# Altium schematic symbol library conn_wire2board.SchLib: 264 symbols (part 1 of 2)
Pins are listed as number, name and electrical type; pins without a type are passive.

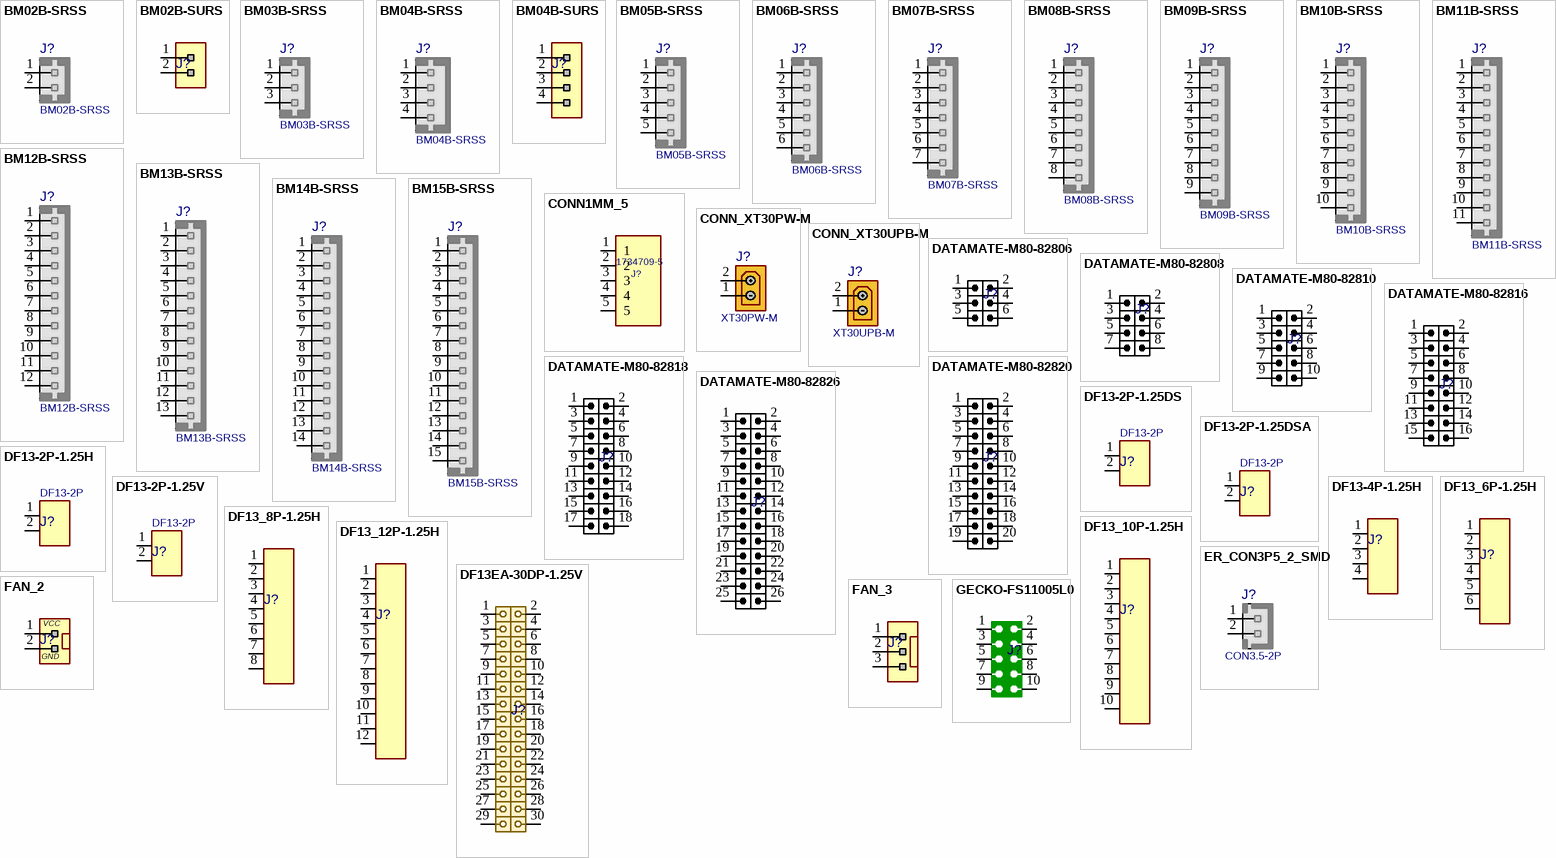
[diagram p0: symbols BM02B-SRSS to GECKO-FS11005L0]

## BM02B-SRSS
designator J?
JST SH Series, pitch: 1.0mm, 1.0A/50v. Top Entry; MANF_P#: BM02B-SRSS-TB; PARAM2: 50v; PARAM: 1.0A; MANF: JST; VALUE: BM02B-SRSS
footprint BM02B_SRSS (SH, Pitch: 1mm, Top Entry, BMxxB-SRSS-TB)
pins: 1, 2

## BM02B-SURS
designator J?, comment BM02B  (value not drawn)
Header, eSUR, Pitch: 0.8mm; MANF: JST; MANF_P#: BM02B-SURS-TF; PARAM2: 30VDC; PARAM: 0.5A; VALUE: BM02B; PRICE: 0.7$
footprint BM02B_SURS (eSUR, Pitch: 0.8mm, Top Entry)
pins: 1, 2

## BM03B-SRSS
designator J?
JST SH Series, pitch: 1.0mm, 1.0A/50v. Top Entry; MANF_P#: BM03B-SRSS-TB; PARAM2: 50v; PARAM: 1.0A; MANF: JST; VALUE: BM03B-SRSS
footprint BM03B_SRSS (SH, Pitch: 1mm, Top Entry, BMxxB-SRSS-TB)
pins: 1, 2, 3

## BM04B-SRSS
designator J?
JST SH Series, pitch: 1.0mm, 1.0A/50v. Top Entry; MANF_P#: BM04B-SRSS-TB; PARAM2: 50v; PARAM: 1.0A; MANF: JST; VALUE: BM04B-SRSS
footprint BM04B_SRSS (SH, Pitch: 1mm, Top Entry, BMxxB-SRSS-TB)
pins: 1, 2, 3, 4

## BM04B-SURS
designator J?, comment BM04B  (value not drawn)
Header, eSUR, Pitch: 0.8mm; MANF: JST; MANF_P#: BM04B-SURS-TF; PARAM2: 30VDC; PARAM: 0.5A; VALUE: BM04B; PRICE: 0.5$
footprint BM04B_SURS (eSUR, Pitch: 0.8mm, Top Entry)
pins: 1, 2, 3, 4

## BM05B-SRSS
designator J?
JST SH Series, pitch: 1.0mm, 1.0A/50v. Top Entry; MANF_P#: BM05B-SRSS-TB; PARAM2: 50v; PARAM: 1.0A; MANF: JST; VALUE: BM05B-SRSS
footprint BM05B_SRSS (SH, Pitch: 1mm, Top Entry, BMxxB-SRSS-TB)
pins: 1, 2, 3, 4, 5

## BM06B-SRSS
designator J?
JST SH Series, pitch: 1.0mm, 1.0A/50v. Top Entry; MANF_P#: BM06B-SRSS-TB; PARAM2: 50v; PARAM: 1.0A; MANF: JST; VALUE: BM06B-SRSS
footprint BM06B_SRSS (SH, Pitch: 1mm, Top Entry, BMxxB-SRSS-TB)
pins: 1, 2, 3, 4, 5, 6

## BM07B-SRSS
designator J?
JST SH Series, pitch: 1.0mm, 1.0A/50v. Top Entry; MANF_P#: BM07B-SRSS-TB; PARAM2: 50v; PARAM: 1.0A; MANF: JST; VALUE: BM07B-SRSS
footprint BM07B_SRSS (SH, Pitch: 1mm, Top Entry, BMxxB-SRSS-TB)
pins: 1, 2, 3, 4, 5, 6, 7

## BM08B-SRSS
designator J?
JST SH Series, pitch: 1.0mm, 1.0A/50v. Top Entry; MANF_P#: BM08B-SRSS-TB; PARAM2: 50v; PARAM: 1.0A; MANF: JST; VALUE: BM08B-SRSS
footprint BM08B_SRSS (SH, Pitch: 1mm, Top Entry, BMxxB-SRSS-TB)
pins: 1, 2, 3, 4, 5, 6, 7, 8

## BM09B-SRSS
designator J?
JST SH Series, pitch: 1.0mm, 1.0A/50v. Top Entry; MANF_P#: BM09B-SRSS-TB; PARAM2: 50v; PARAM: 1.0A; MANF: JST; VALUE: BM09B-SRSS
footprint BM09B_SRSS (SH, Pitch: 1mm, Top Entry, BMxxB-SRSS-TB)
pins: 1, 2, 3, 4, 5, 6, 7, 8, 9

## BM10B-SRSS
designator J?
JST SH Series, pitch: 1.0mm, 1.0A/50v. Top Entry; MANF_P#: BM10B-SRSS-TB; PARAM2: 50v; PARAM: 1.0A; MANF: JST; VALUE: BM10B-SRSS
footprint BM10B_SRSS (SH, Pitch: 1mm, Top Entry, BMxxB-SRSS-TB)
pins: 1, 2, 3, 4, 5, 6, 7, 8, 9, 10

## BM11B-SRSS
designator J?
JST SH Series, pitch: 1.0mm, 1.0A/50v. Top Entry; MANF_P#: BM11B-SRSS-TB; PARAM2: 50v; PARAM: 1.0A; MANF: JST; VALUE: BM11B-SRSS
footprint BM11B_SRSS (SH, Pitch: 1mm, Top Entry, BMxxB-SRSS-TB)
pins: 1, 2, 3, 4, 5, 6, 7, 8, 9, 10, 11

## BM12B-SRSS
designator J?
JST SH Series, pitch: 1.0mm, 1.0A/50v. Top Entry; MANF_P#: BM12B-SRSS-TB; PARAM2: 50v; PARAM: 1.0A; MANF: JST; VALUE: BM12B-SRSS
footprint BM12B_SRSS (SH, Pitch: 1mm, Top Entry, BMxxB-SRSS-TB)
pins: 1, 2, 3, 4, 5, 6, 7, 8, 9, 10, 11, 12

## BM13B-SRSS
designator J?
JST SH Series, pitch: 1.0mm, 1.0A/50v. Top Entry; MANF_P#: BM13B-SRSS-TB; PARAM2: 50v; PARAM: 1.0A; MANF: JST; VALUE: BM13B-SRSS
footprint BM13B_SRSS (SH, Pitch: 1mm, Top Entry, BMxxB-SRSS-TB)
pins: 1, 2, 3, 4, 5, 6, 7, 8, 9, 10, 11, 12, 13

## BM14B-SRSS
designator J?
JST SH Series, pitch: 1.0mm, 1.0A/50v. Top Entry; MANF_P#: BM14B-SRSS-TB; PARAM2: 50v; PARAM: 1.0A; MANF: JST; VALUE: BM14B-SRSS
footprint BM14B_SRSS (SH, Pitch: 1mm, Top Entry, BMxxB-SRSS-TB)
pins: 1, 2, 3, 4, 5, 6, 7, 8, 9, 10, 11, 12, 13, 14

## BM15B-SRSS
designator J?
JST SH Series, pitch: 1.0mm, 1.0A/50v. Top Entry; MANF_P#: BM15B-SRSS-TB; PARAM2: 50v; PARAM: 1.0A; MANF: JST; VALUE: BM15B-SRSS
footprint BM15B_SRSS (SH, Pitch: 1mm, Top Entry, BMxxB-SRSS-TB)
pins: 1, 2, 3, 4, 5, 6, 7, 8, 9, 10, 11, 12, 13, 14, 15

## CONN1MM_5
designator J?, comment 1734709-5
CON 1X5 SMT RA 1MM 124H SN; MANF: Tyco Electronics; MANF_P#: 1734709-5
footprint CONN1MM_5 (CONN, 1mm, SMT RA, TE 1734709-5)
pins: 1, 2, 3, 4, 5

## CONN_XT30PW-M
designator J?, comment XT30PW-M
Conn. Battery  XT30PW, right angle; MANF_P#: XT30PW-M; VALUE: XT30PW-M
footprint BT_CONN_XT30PW_M (BATTERY CONN XT30PW-M , right angle)
pins: 1, 2

## CONN_XT30UPB-M
designator J?, comment XT30UPB-M
Conn. Battery  XT30PW, Vertical; MANF_P#: XT30UPB-M; VALUE: XT30UPB-M
footprint BT_CONN_XT30UPB_M (BATTERY CONN, XT30UPB-M, Vertical)
pins: 1, 2

## DATAMATE-M80-82806
designator J?, comment M80-82806  (value not drawn)
Connector Datamate, pitch:2mm; MANF: Harwin; MANF_P#: M80-8280642; PARAM2: 3A per pin; PARAM: -55~125°C; VALUE: M80-82806; PRICE: 4$
footprint M80_82806 (M80-82806 Harwin Datamate 2mm Male)
pins: 1, 2, 3, 4, 5, 6

## DATAMATE-M80-82808
designator J?, comment M80-82808  (value not drawn)
Connector Datamate, pitch:2mm; MANF: Harwin; MANF_P#: M80-8280842; PARAM2: 3A per pin; PARAM: -55~125°C; VALUE: M80-82808; PRICE: 4$
footprint M80_82808 (Footprint not found)
pins: 1, 2, 3, 4, 5, 6, 7, 8

## DATAMATE-M80-82810
designator J?, comment M80-82810  (value not drawn)
Connector Datamate, pitch:2mm; MANF: Harwin; MANF_P#: M80-8281042; PARAM2: 3A per pin; PARAM: -55~125°C; VALUE: M80-82810; PRICE: 4$
footprint M80_82810 (M80-8281042 Harwin Datamate 2mm Male)
pins: 1, 2, 3, 4, 5, 6, 7, 8, 9, 10

## DATAMATE-M80-82816
designator J?, comment M80-82816  (value not drawn)
Connector Datamate, pitch:2mm; MANF: Harwin; MANF_P#: M80-8281642; PARAM2: 3A per pin; PARAM: -55~125°C; VALUE: M80-82816; PRICE: 4$
footprint M80_82816 (M80-8281642 Harwin Datamate 2mm Male)
pins: 1, 2, 3, 4, 5, 6, 7, 8, 9, 10, 11, 12, 13, 14, 15, 16

## DATAMATE-M80-82818
designator J?, comment M80-82818  (value not drawn)
Connector Datamate, pitch:2mm; MANF: Harwin; MANF_P#: M80-8281842; PARAM2: 3A per pin; PARAM: -55~125°C; VALUE: M80-82818; PRICE: 4$
footprint M80_82818 (M80-8281842 Harwin Datamate 2mm Male)
pins: 1, 2, 3, 4, 5, 6, 7, 8, 9, 10, 11, 12, 13, 14, 15, 16, 17, 18

## DATAMATE-M80-82820
designator J?, comment M80-82820  (value not drawn)
Connector Datamate, pitch:2mm; MANF: Harwin; MANF_P#: M80-8282042; PARAM2: 3A per pin; PARAM: -55~125°C; VALUE: M80-82820; PRICE: 4$
footprint M80_82820 (M80-8281042 Harwin Datamate 2mm Male)
pins: 1, 2, 3, 4, 5, 6, 7, 8, 9, 10, 11, 12, 13, 14, 15, 16, 17, 18, 19, 20

## DATAMATE-M80-82826
designator J?, comment M80-82826  (value not drawn)
Connector Datamate, pitch:2mm; MANF: Harwin; MANF_P#: M80-8282642; PARAM2: 3A per pin; PARAM: -55~125°C; VALUE: M80-82826; PRICE: 4$
footprint M80_82826 (M80-8282642 Harwin Datamate 2mm Male)
pins: 1, 2, 3, 4, 5, 6, 7, 8, 9, 10, 11, 12, 13, 14, 15, 16, 17, 18, 19, 20, 21, 22, 23, 24, 25, 26

## DF13-2P-1.25DS
designator J?, comment DF13-2P
Connector, DF13, pitch:1.25mm, singleRow, RightAngle, THD; MANF: Hirose; MANF_P#: DF13-2P-1.25DS; VALUE: DF13-2P
footprint DF13_2P_DS (Hirose Connector DF13-2P-1.25DS pitch:1.25mm)
signal-integrity model Connector
pins: 1, 2

## DF13-2P-1.25DSA
designator J?, comment DF13-2P
Connector, DF13, pitch:1.25mm, singleRow, Straight, THD; MANF: Hirose; MANF_P#: DF13-2P-1.25DSA; VALUE: DF13-2P
footprint DF13_2P_DSA (Footprint not found)
signal-integrity model Connector
pins: 1, 2

## DF13-2P-1.25H
designator J?, comment DF13-2P
Connector, DF13, pitch:1.25mm, singleRow, Straight, THD; MANF: Hirose; MANF_P#: DF13-2P-1.25H; VALUE: DF13-2P
footprint DF13_2P_H (Hirose Connector DF13-2P-1.25H, pitch:1.25mm)
signal-integrity model Connector
pins: 1, 2

## DF13-2P-1.25V
designator J?, comment DF13-2P
Connector, DF13, pitch:1.25mm, singleRow, Straight, SMT; MANF: Hirose; MANF_P#: DF13-2P-1.25V; VALUE: DF13-2P
footprint DF13_2P_V (Hirose Connector DF13-2P-1.25V, pitch:1.25mm)
signal-integrity model Connector
pins: 1, 2

## DF13-4P-1.25H
designator J?, comment DF13-4  (value not drawn)
Connector, DF13, pitch:1.25mm, singleRow, Right Angle, SMT; MANF: Hirose; MANF_P#: DF13-4P-1.25H; VALUE: DF13-4
footprint DF13_4P_H (Hirose Connector DF13-4P-1.25H, DF13 4WAY pitch:1.25mm)
signal-integrity model Connector
pins: 1, 2, 3, 4

## DF13_6P-1.25H
designator J?, comment DF13-6  (value not drawn)
Connector, DF13, pitch:1.25mm, singleRow, Right Angle, SMT; MANF: Hirose; MANF_P#: DF13-6P-1.25H; VALUE: DF13-6
footprint DF13_6P_H (Hirose Connector DF13-6P-1.25H, DF13 6WAY pitch:1.25mm)
signal-integrity model Connector
pins: 1, 2, 3, 4, 5, 6

## DF13_8P-1.25H
designator J?, comment DF13-8  (value not drawn)
Connector, DF13, pitch:1.25mm, singleRow, Right Angle, SMT; MANF: Hirose; MANF_P#: DF13-8P-1.25H; VALUE: DF13-8
footprint DF13_8P_H (Hirose Connector DF13-8P-1.25H, pitch:1.25mm)
signal-integrity model Connector
pins: 1, 2, 3, 4, 5, 6, 7, 8

## DF13_10P-1.25H
designator J?, comment DF13-10P  (value not drawn)
Connector, DF13, pitch:1.25mm, singleRow, Right Angle, SMT; MANF: Hirose; MANF_P#: DF13-10P-1.25H; VALUE: DF13-10P
footprint DF13_10P_H (Hirose Connector DF13-12P-1.25H, pitch:1.25mm)
signal-integrity model Connector
pins: 1, 2, 3, 4, 5, 6, 7, 8, 9, 10

## DF13_12P-1.25H
designator J?, comment DF13-12P  (value not drawn)
Connector, DF13, pitch:1.25mm, singleRow, Right Angle, SMT; MANF: Hirose; MANF_P#: DF13-12P-1.25H; VALUE: DF13-12P
footprint DF13_12P_H (Hirose Connector DF13-12P-1.25H, pitch:1.25mm)
signal-integrity model Connector
pins: 1, 2, 3, 4, 5, 6, 7, 8, 9, 10, 11, 12

## DF13EA-30DP-1.25V
designator J?  (value not drawn)
Connector GECKO, pitch:1.25mm; MANF: Hirose; PARAM2: 1A per pin; PARAM: -35~85°C; MANF_P#: DF13EA-30DP-1.25V; VALUE: DF13EA-30DP-1.25V; PRICE: 24$
footprint DF13EA-30DP (DF13EA-30DP-1.25V Hirose 1.25mm)
pins: 1, 2, 3, 4, 5, 6, 7, 8, 9, 10, 11, 12, 13, 14, 15, 16, 17, 18, 19, 20, 21, 22, 23, 24, 25, 26, 27, 28, 29, 30

## ER_CON3P5_2_SMD
designator J?, comment CON3.5-2P
CONN, lcd backligh, 3.5mm pitch; MANF_P#: ER-CON3.5-2P-SMD; VALUE: CON3.5-2P
footprint ER_CON3P5_2_SMD (ER-CON3.5-2P-SMD)
signal-integrity model Connector
pins: 1, 2

## FAN_2
designator J?  (value not drawn)
Header, WF, Pitch: 2.54mm; VALUE: FAN_2
footprint WF_2 (DS1070  WF, Cvilux CI31 pitch 2.54mm)
signal-integrity model Connector
pins: 1, 2
text: VCC; GND

## FAN_3
designator J?  (value not drawn)
Header, WF, Pitch: 2.54mm; VALUE: FAN_3
footprint WF_3 (DS1070  WF, Cvilux CI31 pitch 2.54mm)
signal-integrity model Connector
pins: 1, 2, 3

## GECKO-FS11005L0
designator J?, comment G125-FS11005L0  (value not drawn)
Connector GECKO, pitch:1.25mm; MANF: Harwin; MANF_P#: G125-FS11005L0R; PARAM2: 2A per pin; PARAM: -65~150°C; VALUE: G125-FS11005L0; PRICE: 24$
footprint G125_FS11005L0 (G125-FS11005L0 Harwin Gecko 1.25mm Female)
pins: 1, 2, 3, 4, 5, 6, 7, 8, 9, 10

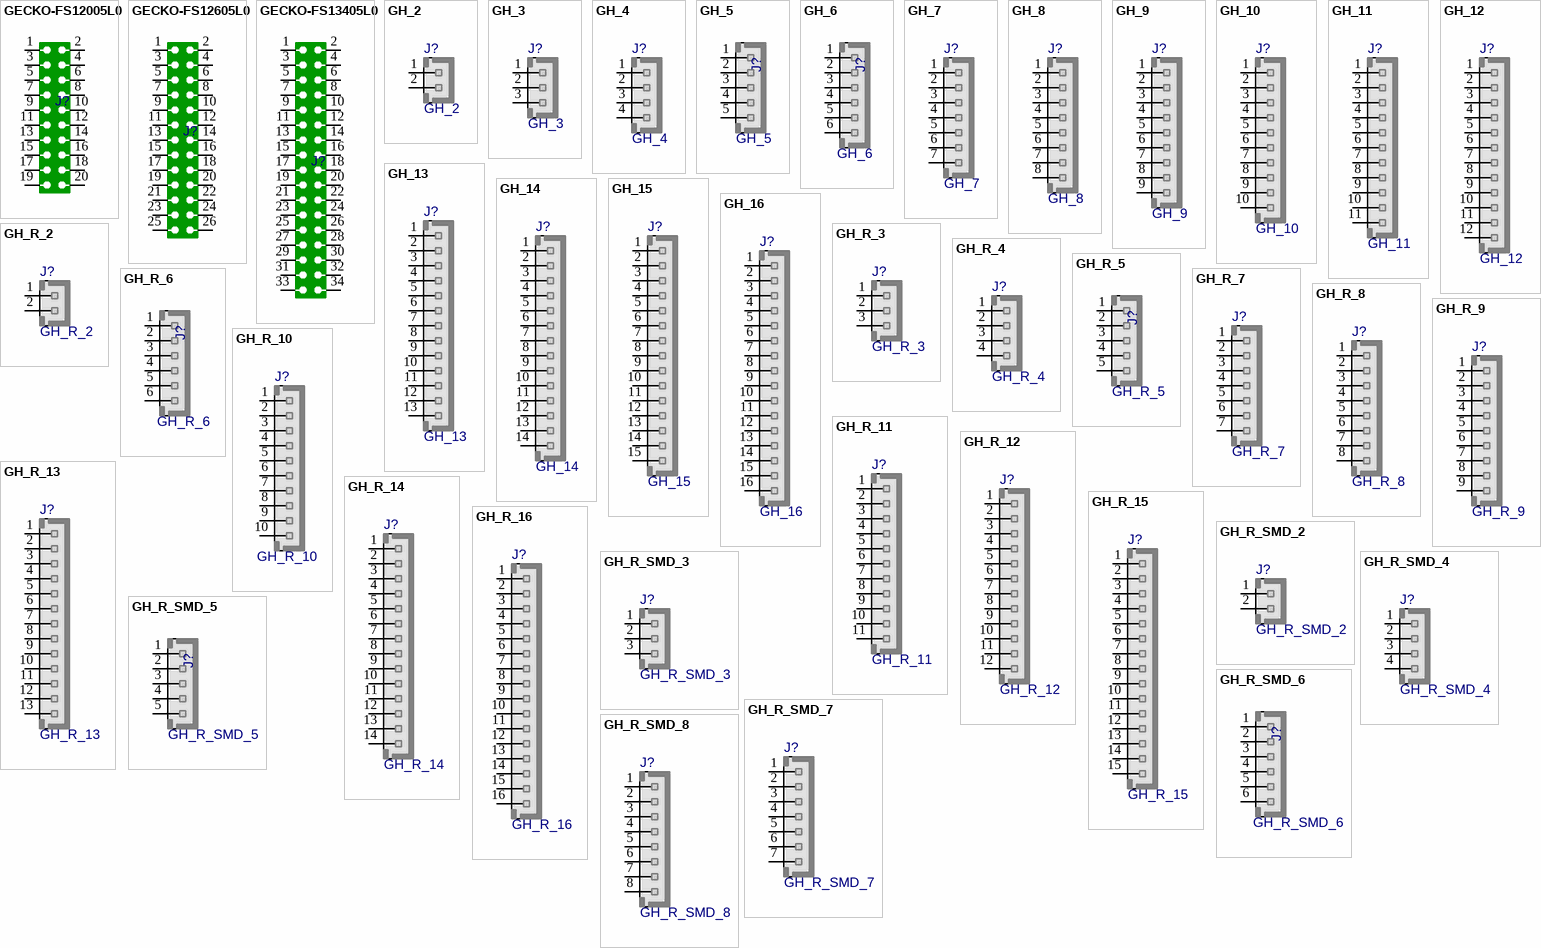
[diagram p1: symbols GECKO-FS12005L0 to GH_R_SMD_8]

## GECKO-FS12005L0
designator J?, comment G125-FS12005L0  (value not drawn)
Connector GECKO, pitch:1.25mm; MANF: Harwin; MANF_P#: G125-FS12005L0R; PARAM2: 2A per pin; PARAM: -65~150°C; VALUE: G125-FS12005L0; PRICE: 24$
footprint G125_FS12005L0 (G125-FS12005L0 Harwin Gecko 1.25mm Female)
pins: 1, 2, 3, 4, 5, 6, 7, 8, 9, 10, 11, 12, 13, 14, 15, 16, 17, 18, 19, 20

## GECKO-FS12605L0
designator J?, comment G125-FS12605L0  (value not drawn)
Connector GECKO, pitch:1.25mm; MANF: Harwin; MANF_P#: G125-FS12605L0R; PARAM2: 2A per pin; PARAM: -65~150°C; VALUE: G125-FS12605L0; PRICE: 24$
footprint G125_FS12605L0 (G125-FS12605L0 Harwin Gecko 1.25mm Female)
pins: 1, 2, 3, 4, 5, 6, 7, 8, 9, 10, 11, 12, 13, 14, 15, 16, 17, 18, 19, 20, 21, 22, 23, 24, 25, 26

## GECKO-FS13405L0
designator J?, comment G125-FS13405L0  (value not drawn)
Connector GECKO, pitch:1.25mm; MANF: Harwin; MANF_P#: G125-FS13405L0R; PARAM2: 2A per pin; PARAM: -65~150°C; VALUE: G125-FS13405L0; PRICE: 24$
footprint G125_FS13405L0 (G125-FS13405L0 Harwin Gecko 1.25mm Female)
pins: 1, 2, 3, 4, 5, 6, 7, 8, 9, 10, 11, 12, 13, 14, 15, 16, 17, 18, 19, 20, 21, 22, 23, 24, 25, 26, 27, 28, 29, 30, 31, 32, 33, 34

## GH_2
designator J?
JST GH Series, pitch: 1.25mm, 1.0A/50v; PARAM2: 50v; PARAM: 1.0A; MANF: JST; VALUE: GH_2
footprint GH_2 (JST GH Series, pitch: 1.25mm, 1.0A/50v)
pins: 1, 2

## GH_3
designator J?
JST GH Series, pitch: 1.25mm, 1.0A/50v; PARAM2: 50v; PARAM: 1.0A; MANF: JST; VALUE: GH_3
footprint GH_3 (JST GH Series, pitch: 1.25mm, 1.0A/50v)
pins: 1, 2, 3

## GH_4
designator J?
JST GH Series, pitch: 1.25mm, 1.0A/50v; PARAM2: 50v; PARAM: 1.0A; MANF: JST; VALUE: GH_4
footprint GH_4 (JST GH Series, pitch: 1.25mm, 1.0A/50v)
pins: 1, 2, 3, 4

## GH_5
designator J?
JST GH Series, pitch: 1.25mm, 1.0A/50v; PARAM2: 50v; PARAM: 1.0A; MANF: JST; VALUE: GH_5
footprint GH_5 (JST GH Series, pitch: 1.25mm, 1.0A/50v)
pins: 1, 2, 3, 4, 5

## GH_6
designator J?
JST GH Series, pitch: 1.25mm, 1.0A/50v; PARAM2: 50v; PARAM: 1.0A; MANF: JST; VALUE: GH_6
footprint GH_6 (JST GH Series, pitch: 1.25mm, 1.0A/50v)
pins: 1, 2, 3, 4, 5, 6

## GH_7
designator J?
JST GH Series, pitch: 1.25mm, 1.0A/50v; PARAM2: 50v; PARAM: 1.0A; MANF: JST; VALUE: GH_7
footprint GH_7 (JST GH Series, pitch: 1.25mm, 1.0A/50v)
pins: 1, 2, 3, 4, 5, 6, 7

## GH_8
designator J?
JST GH Series, pitch: 1.25mm, 1.0A/50v; PARAM2: 50v; PARAM: 1.0A; MANF: JST; VALUE: GH_8
footprint GH_8 (JST GH Series, pitch: 1.25mm, 1.0A/50v)
pins: 1, 2, 3, 4, 5, 6, 7, 8

## GH_9
designator J?
JST GH Series, pitch: 1.25mm, 1.0A/50v; PARAM2: 50v; PARAM: 1.0A; MANF: JST; VALUE: GH_9
footprint GH_9 (JST GH Series, pitch: 1.25mm, 1.0A/50v)
pins: 1, 2, 3, 4, 5, 6, 7, 8, 9

## GH_10
designator J?
JST GH Series, pitch: 1.25mm, 1.0A/50v; PARAM2: 50v; PARAM: 1.0A; MANF: JST; VALUE: GH_10
footprint GH_10 (JST GH Series, pitch: 1.25mm, 1.0A/50v)
pins: 1, 2, 3, 4, 5, 6, 7, 8, 9, 10

## GH_11
designator J?
JST GH Series, pitch: 1.25mm, 1.0A/50v; PARAM2: 50v; PARAM: 1.0A; MANF: JST; VALUE: GH_11
footprint GH_11 (JST GH Series, pitch: 1.25mm, 1.0A/50v)
pins: 1, 2, 3, 4, 5, 6, 7, 8, 9, 10, 11

## GH_12
designator J?
JST GH Series, pitch: 1.25mm, 1.0A/50v; PARAM2: 50v; PARAM: 1.0A; MANF: JST; VALUE: GH_12
footprint GH_12 (JST GH Series, pitch: 1.25mm, 1.0A/50v)
pins: 1, 2, 3, 4, 5, 6, 7, 8, 9, 10, 11, 12

## GH_13
designator J?
JST GH Series, pitch: 1.25mm, 1.0A/50v; PARAM2: 50v; PARAM: 1.0A; MANF: JST; VALUE: GH_13
footprint GH_13 (JST GH Series, pitch: 1.25mm, 1.0A/50v)
pins: 1, 2, 3, 4, 5, 6, 7, 8, 9, 10, 11, 12, 13

## GH_14
designator J?
JST GH Series, pitch: 1.25mm, 1.0A/50v; PARAM2: 50v; PARAM: 1.0A; MANF: JST; VALUE: GH_14
footprint GH_14 (JST GH Series, pitch: 1.25mm, 1.0A/50v)
pins: 1, 2, 3, 4, 5, 6, 7, 8, 9, 10, 11, 12, 13, 14

## GH_15
designator J?
JST GH Series, pitch: 1.25mm, 1.0A/50v; PARAM2: 50v; PARAM: 1.0A; MANF: JST; VALUE: GH_15
footprint GH_15 (JST GH Series, pitch: 1.25mm, 1.0A/50v)
pins: 1, 2, 3, 4, 5, 6, 7, 8, 9, 10, 11, 12, 13, 14, 15

## GH_16
designator J?
JST GH Series, pitch: 1.25mm, 1.0A/50v; PARAM2: 50v; PARAM: 1.0A; MANF: JST; VALUE: GH_16
footprint GH_16 (JST GH Series, pitch: 1.25mm, 1.0A/50v)
pins: 1, 2, 3, 4, 5, 6, 7, 8, 9, 10, 11, 12, 13, 14, 15, 16

## GH_R_2
designator J?
JST GH Series, pitch: 1.25mm, 1.0A/50v; PARAM2: 50v; PARAM: 1.0A; MANF: JST; VALUE: GH_R_2
footprint GH_R_2 (JST GH Series, pitch: 1.25mm, 1.0A/50v, Right Angle)
pins: 1, 2

## GH_R_3
designator J?
JST GH Series, pitch: 1.25mm, 1.0A/50v; PARAM2: 50v; PARAM: 1.0A; MANF: JST; VALUE: GH_R_3
footprint GH_R_3 (JST GH Series, pitch: 1.25mm, 1.0A/50v, Right Angle)
pins: 1, 2, 3

## GH_R_4
designator J?
JST GH Series, pitch: 1.25mm, 1.0A/50v; PARAM2: 50v; PARAM: 1.0A; MANF: JST; VALUE: GH_R_4
footprint GH_R_4 (JST GH Series, pitch: 1.25mm, 1.0A/50v, Right Angle)
pins: 1, 2, 3, 4

## GH_R_5
designator J?
JST GH Series, pitch: 1.25mm, 1.0A/50v; PARAM2: 50v; PARAM: 1.0A; MANF: JST; VALUE: GH_R_5
footprint GH_R_5 (JST GH Series, pitch: 1.25mm, 1.0A/50v, Right Angle)
pins: 1, 2, 3, 4, 5

## GH_R_6
designator J?
JST GH Series, pitch: 1.25mm, 1.0A/50v; PARAM2: 50v; PARAM: 1.0A; MANF: JST; VALUE: GH_R_6
footprint GH_R_6 (JST GH Series, pitch: 1.25mm, 1.0A/50v, Right Angle)
pins: 1, 2, 3, 4, 5, 6

## GH_R_7
designator J?
JST GH Series, pitch: 1.25mm, 1.0A/50v; PARAM2: 50v; PARAM: 1.0A; MANF: JST; VALUE: GH_R_7
footprint GH_R_7 (JST GH Series, pitch: 1.25mm, 1.0A/50v, Right Angle)
pins: 1, 2, 3, 4, 5, 6, 7

## GH_R_8
designator J?
JST GH Series, pitch: 1.25mm, 1.0A/50v; PARAM2: 50v; PARAM: 1.0A; MANF: JST; VALUE: GH_R_8
footprint GH_R_8 (JST GH Series, pitch: 1.25mm, 1.0A/50v, Right Angle)
pins: 1, 2, 3, 4, 5, 6, 7, 8

## GH_R_9
designator J?
JST GH Series, pitch: 1.25mm, 1.0A/50v; PARAM2: 50v; PARAM: 1.0A; MANF: JST; VALUE: GH_R_9
footprint GH_R_9 (JST GH Series, pitch: 1.25mm, 1.0A/50v, Right Angle)
pins: 1, 2, 3, 4, 5, 6, 7, 8, 9

## GH_R_10
designator J?
JST GH Series, pitch: 1.25mm, 1.0A/50v; PARAM2: 50v; PARAM: 1.0A; MANF: JST; VALUE: GH_R_10
footprint GH_R_10 (JST GH Series, pitch: 1.25mm, 1.0A/50v, Right Angle)
pins: 1, 2, 3, 4, 5, 6, 7, 8, 9, 10

## GH_R_11
designator J?
JST GH Series, pitch: 1.25mm, 1.0A/50v; PARAM2: 50v; PARAM: 1.0A; MANF: JST; VALUE: GH_R_11
footprint GH_R_11 (JST GH Series, pitch: 1.25mm, 1.0A/50v, Right Angle)
pins: 1, 2, 3, 4, 5, 6, 7, 8, 9, 10, 11

## GH_R_12
designator J?
JST GH Series, pitch: 1.25mm, 1.0A/50v; PARAM2: 50v; PARAM: 1.0A; MANF: JST; VALUE: GH_R_12
footprint GH_R_12 (JST GH Series, pitch: 1.25mm, 1.0A/50v, Right Angle)
pins: 1, 2, 3, 4, 5, 6, 7, 8, 9, 10, 11, 12

## GH_R_13
designator J?
JST GH Series, pitch: 1.25mm, 1.0A/50v; PARAM2: 50v; PARAM: 1.0A; MANF: JST; VALUE: GH_R_13
footprint GH_R_13 (JST GH Series, pitch: 1.25mm, 1.0A/50v, Right Angle)
pins: 1, 2, 3, 4, 5, 6, 7, 8, 9, 10, 11, 12, 13

## GH_R_14
designator J?
JST GH Series, pitch: 1.25mm, 1.0A/50v; PARAM2: 50v; PARAM: 1.0A; MANF: JST; VALUE: GH_R_14
footprint GH_R_14 (JST GH Series, pitch: 1.25mm, 1.0A/50v, Right Angle)
pins: 1, 2, 3, 4, 5, 6, 7, 8, 9, 10, 11, 12, 13, 14

## GH_R_15
designator J?
JST GH Series, pitch: 1.25mm, 1.0A/50v; PARAM2: 50v; PARAM: 1.0A; MANF: JST; VALUE: GH_R_15
footprint GH_R_15 (JST GH Series, pitch: 1.25mm, 1.0A/50v, Right Angle)
pins: 1, 2, 3, 4, 5, 6, 7, 8, 9, 10, 11, 12, 13, 14, 15

## GH_R_16
designator J?
JST GH Series, pitch: 1.25mm, 1.0A/50v; PARAM2: 50v; PARAM: 1.0A; MANF: JST; VALUE: GH_R_16
footprint GH_R_16 (JST GH Series, pitch: 1.25mm, 1.0A/50v, Right Angle)
pins: 1, 2, 3, 4, 5, 6, 7, 8, 9, 10, 11, 12, 13, 14, 15, 16

## GH_R_SMD_2
designator J?
JST GH Series, pitch: 1.25mm, 1.0A/50v; MANF_P#: SM02B-GHS-TB; PARAM2: 50v; PARAM: 1.0A; MANF: JST; VALUE: GH_R_SMD_2
footprint GH_R_SMD_2 (JST GH Series, pitch: 1.25mm, 1.0A/50v, Right Angle, SMD)
pins: 1, 2

## GH_R_SMD_3
designator J?
JST GH Series, pitch: 1.25mm, 1.0A/50v; MANF_P#: SM03B-GHS-TB; PARAM2: 50v; PARAM: 1.0A; MANF: JST; VALUE: GH_R_SMD_3
footprint GH_R_SMD_3 (JST GH Series, pitch: 1.25mm, 1.0A/50v, Right Angle, SMD)
pins: 1, 2, 3

## GH_R_SMD_4
designator J?
JST GH Series, pitch: 1.25mm, 1.0A/50v; MANF_P#: SM04B-GHS-TB; PARAM2: 50v; PARAM: 1.0A; MANF: JST; VALUE: GH_R_SMD_4
footprint GH_R_SMD_4 (JST GH Series, pitch: 1.25mm, 1.0A/50v, Right Angle, SMD)
pins: 1, 2, 3, 4

## GH_R_SMD_5
designator J?
JST GH Series, pitch: 1.25mm, 1.0A/50v; MANF_P#: SM05B-GHS-TB; PARAM2: 50v; PARAM: 1.0A; MANF: JST; VALUE: GH_R_SMD_5
footprint GH_R_SMD_5 (JST GH Series, pitch: 1.25mm, 1.0A/50v, Right Angle, SMD)
pins: 1, 2, 3, 4, 5

## GH_R_SMD_6
designator J?
JST GH Series, pitch: 1.25mm, 1.0A/50v; MANF_P#: SM06B-GHS-TB; PARAM2: 50v; PARAM: 1.0A; MANF: JST; VALUE: GH_R_SMD_6
footprint GH_R_SMD_6 (JST GH Series, pitch: 1.25mm, 1.0A/50v, Right Angle, SMD)
pins: 1, 2, 3, 4, 5, 6

## GH_R_SMD_7
designator J?
JST GH Series, pitch: 1.25mm, 1.0A/50v; MANF_P#: SM07B-GHS-TB; PARAM2: 50v; PARAM: 1.0A; MANF: JST; VALUE: GH_R_SMD_7
footprint GH_R_SMD_7 (JST GH Series, pitch: 1.25mm, 1.0A/50v, Right Angle, SMD)
pins: 1, 2, 3, 4, 5, 6, 7

## GH_R_SMD_8
designator J?
JST GH Series, pitch: 1.25mm, 1.0A/50v; MANF_P#: SM08B-GHS-TB; PARAM2: 50v; PARAM: 1.0A; MANF: JST; VALUE: GH_R_SMD_8
footprint GH_R_SMD_8 (JST GH Series, pitch: 1.25mm, 1.0A/50v, Right Angle, SMD)
pins: 1, 2, 3, 4, 5, 6, 7, 8

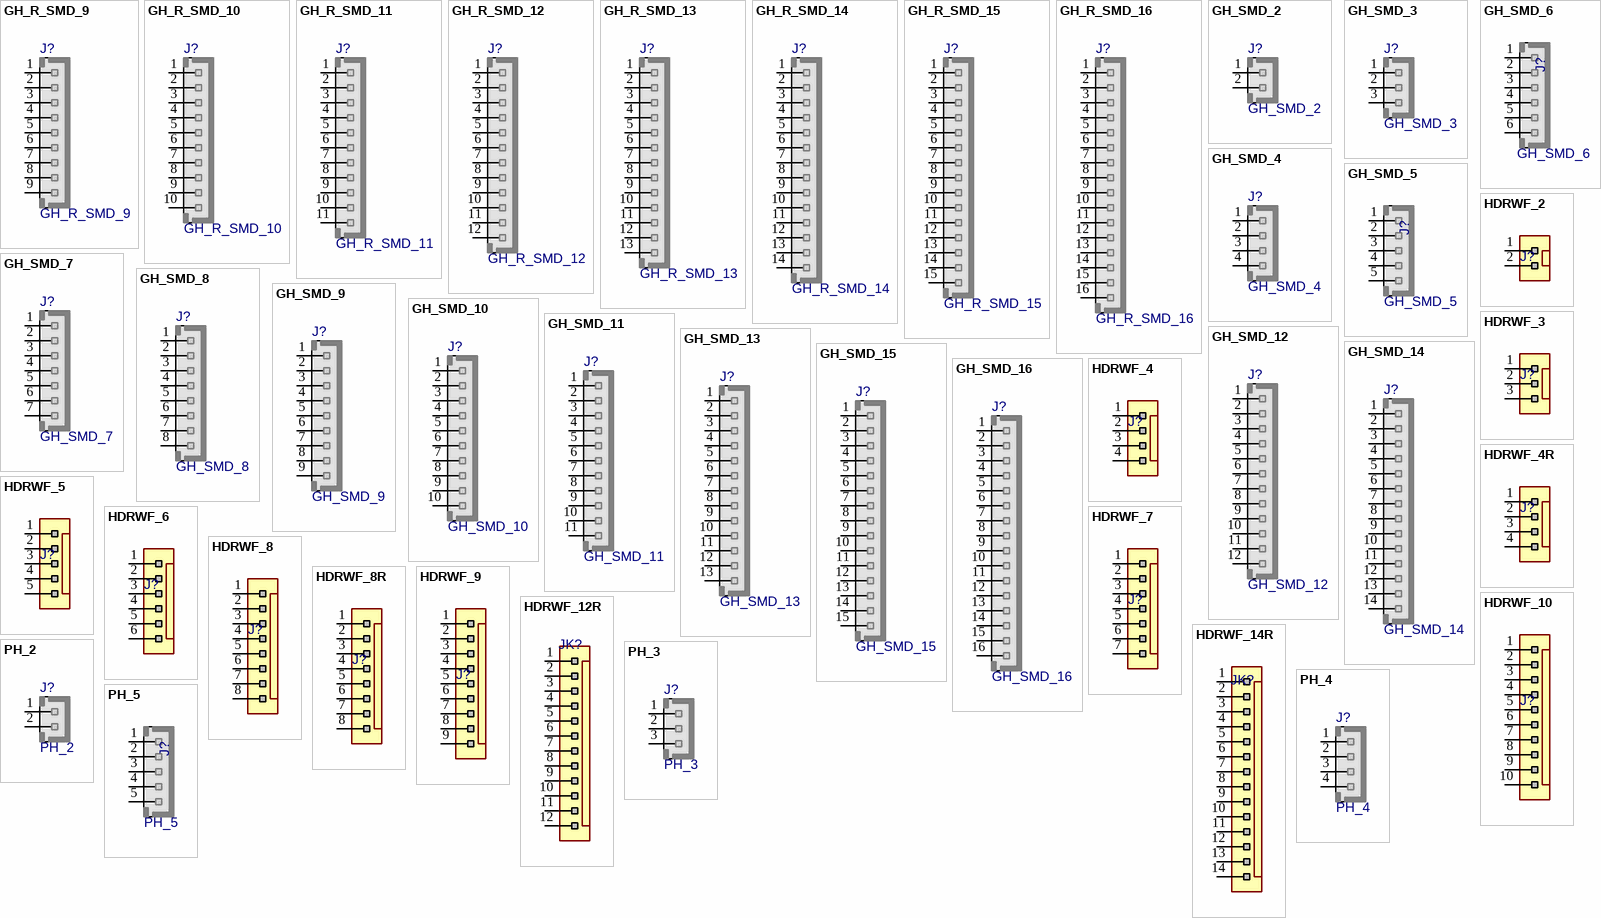
[diagram p2: symbols GH_R_SMD_9 to PH_5]

## GH_R_SMD_9
designator J?
JST GH Series, pitch: 1.25mm, 1.0A/50v; MANF_P#: SM09B-GHS-TB; PARAM2: 50v; PARAM: 1.0A; MANF: JST; VALUE: GH_R_SMD_9
footprint GH_R_SMD_9 (JST GH Series, pitch: 1.25mm, 1.0A/50v, Right Angle, SMD)
pins: 1, 2, 3, 4, 5, 6, 7, 8, 9

## GH_R_SMD_10
designator J?
JST GH Series, pitch: 1.25mm, 1.0A/50v; MANF_P#: SM10B-GHS-TB; PARAM2: 50v; PARAM: 1.0A; MANF: JST; VALUE: GH_R_SMD_10
footprint GH_R_SMD_10 (JST GH Series, pitch: 1.25mm, 1.0A/50v, Right Angle, SMD)
pins: 1, 2, 3, 4, 5, 6, 7, 8, 9, 10

## GH_R_SMD_11
designator J?
JST GH Series, pitch: 1.25mm, 1.0A/50v; MANF_P#: SM11B-GHS-TB; PARAM2: 50v; PARAM: 1.0A; MANF: JST; VALUE: GH_R_SMD_11
footprint GH_R_SMD_11 (JST GH Series, pitch: 1.25mm, 1.0A/50v, Right Angle, SMD)
pins: 1, 2, 3, 4, 5, 6, 7, 8, 9, 10, 11

## GH_R_SMD_12
designator J?
JST GH Series, pitch: 1.25mm, 1.0A/50v; MANF_P#: SM12B-GHS-TB; PARAM2: 50v; PARAM: 1.0A; MANF: JST; VALUE: GH_R_SMD_12
footprint GH_R_SMD_12 (JST GH Series, pitch: 1.25mm, 1.0A/50v, Right Angle, SMD)
pins: 1, 2, 3, 4, 5, 6, 7, 8, 9, 10, 11, 12

## GH_R_SMD_13
designator J?
JST GH Series, pitch: 1.25mm, 1.0A/50v; MANF_P#: SM13B-GHS-TB; PARAM2: 50v; PARAM: 1.0A; MANF: JST; VALUE: GH_R_SMD_13
footprint GH_R_SMD_13 (JST GH Series, pitch: 1.25mm, 1.0A/50v, Right Angle, SMD)
pins: 1, 2, 3, 4, 5, 6, 7, 8, 9, 10, 11, 12, 13

## GH_R_SMD_14
designator J?
JST GH Series, pitch: 1.25mm, 1.0A/50v; MANF_P#: SM14B-GHS-TB; PARAM2: 50v; PARAM: 1.0A; MANF: JST; VALUE: GH_R_SMD_14
footprint GH_R_SMD_14 (JST GH Series, pitch: 1.25mm, 1.0A/50v, Right Angle, SMD)
pins: 1, 2, 3, 4, 5, 6, 7, 8, 9, 10, 11, 12, 13, 14

## GH_R_SMD_15
designator J?
JST GH Series, pitch: 1.25mm, 1.0A/50v; MANF_P#: SM15B-GHS-TB; PARAM2: 50v; PARAM: 1.0A; MANF: JST; VALUE: GH_R_SMD_15
footprint GH_R_SMD_15 (JST GH Series, pitch: 1.25mm, 1.0A/50v, Right Angle, SMD)
pins: 1, 2, 3, 4, 5, 6, 7, 8, 9, 10, 11, 12, 13, 14, 15

## GH_R_SMD_16
designator J?
JST GH Series, pitch: 1.25mm, 1.0A/50v; MANF_P#: SM16B-GHS-TB; PARAM2: 50v; PARAM: 1.0A; MANF: JST; VALUE: GH_R_SMD_16
footprint GH_R_SMD_16 (JST GH Series, pitch: 1.25mm, 1.0A/50v, Right Angle, SMD)
pins: 1, 2, 3, 4, 5, 6, 7, 8, 9, 10, 11, 12, 13, 14, 15, 16

## GH_SMD_2
designator J?
JST GH Series, pitch: 1.25mm, 1.0A/50v; MANF_P#: BM02B-GHS-TB; PARAM2: 50v; PARAM: 1.0A; MANF: JST; VALUE: GH_SMD_2
footprint GH_SMD_2 (JST GH Series, pitch: 1.25mm, 1.0A/50v, SMD)
pins: 1, 2

## GH_SMD_3
designator J?
JST GH Series, pitch: 1.25mm, 1.0A/50v; MANF_P#: BM03B-GHS-TB; PARAM2: 50v; PARAM: 1.0A; MANF: JST; VALUE: GH_SMD_3
footprint GH_SMD_3 (JST GH Series, pitch: 1.25mm, 1.0A/50v, SMD)
pins: 1, 2, 3

## GH_SMD_4
designator J?
JST GH Series, pitch: 1.25mm, 1.0A/50v; MANF_P#: BM04B-GHS-TB; PARAM2: 50v; PARAM: 1.0A; MANF: JST; VALUE: GH_SMD_4
footprint GH_SMD_4 (JST GH Series, pitch: 1.25mm, 1.0A/50v, SMD)
pins: 1, 2, 3, 4

## GH_SMD_5
designator J?
JST GH Series, pitch: 1.25mm, 1.0A/50v; MANF_P#: BM05B-GHS-TB; PARAM2: 50v; PARAM: 1.0A; MANF: JST; VALUE: GH_SMD_5
footprint GH_SMD_5 (JST GH Series, pitch: 1.25mm, 1.0A/50v, SMD)
pins: 1, 2, 3, 4, 5

## GH_SMD_6
designator J?
JST GH Series, pitch: 1.25mm, 1.0A/50v; MANF_P#: BM06B-GHS-TB; PARAM2: 50v; PARAM: 1.0A; MANF: JST; VALUE: GH_SMD_6
footprint GH_SMD_6 (JST GH Series, pitch: 1.25mm, 1.0A/50v, SMD)
pins: 1, 2, 3, 4, 5, 6

## GH_SMD_7
designator J?
JST GH Series, pitch: 1.25mm, 1.0A/50v; MANF_P#: BM07B-GHS-TB; PARAM2: 50v; PARAM: 1.0A; MANF: JST; VALUE: GH_SMD_7
footprint GH_SMD_7 (JST GH Series, pitch: 1.25mm, 1.0A/50v, SMD)
pins: 1, 2, 3, 4, 5, 6, 7

## GH_SMD_8
designator J?
JST GH Series, pitch: 1.25mm, 1.0A/50v; MANF_P#: BM08B-GHS-TB; PARAM2: 50v; PARAM: 1.0A; MANF: JST; VALUE: GH_SMD_8
footprint GH_SMD_8 (JST GH Series, pitch: 1.25mm, 1.0A/50v, SMD)
pins: 1, 2, 3, 4, 5, 6, 7, 8

## GH_SMD_9
designator J?
JST GH Series, pitch: 1.25mm, 1.0A/50v; MANF_P#: BM09B-GHS-TB; PARAM2: 50v; PARAM: 1.0A; MANF: JST; VALUE: GH_SMD_9
footprint GH_SMD_9 (JST GH Series, pitch: 1.25mm, 1.0A/50v, SMD)
pins: 1, 2, 3, 4, 5, 6, 7, 8, 9

## GH_SMD_10
designator J?
JST GH Series, pitch: 1.25mm, 1.0A/50v; MANF_P#: BM10B-GHS-TB; PARAM2: 50v; PARAM: 1.0A; MANF: JST; VALUE: GH_SMD_10
footprint GH_SMD_10 (JST GH Series, pitch: 1.25mm, 1.0A/50v, SMD)
pins: 1, 2, 3, 4, 5, 6, 7, 8, 9, 10

## GH_SMD_11
designator J?
JST GH Series, pitch: 1.25mm, 1.0A/50v; MANF_P#: BM11B-GHS-TB; PARAM2: 50v; PARAM: 1.0A; MANF: JST; VALUE: GH_SMD_11
footprint GH_SMD_11 (JST GH Series, pitch: 1.25mm, 1.0A/50v, SMD)
pins: 1, 2, 3, 4, 5, 6, 7, 8, 9, 10, 11

## GH_SMD_12
designator J?
JST GH Series, pitch: 1.25mm, 1.0A/50v; MANF_P#: BM12B-GHS-TB; PARAM2: 50v; PARAM: 1.0A; MANF: JST; VALUE: GH_SMD_12
footprint GH_SMD_12 (JST GH Series, pitch: 1.25mm, 1.0A/50v, SMD)
pins: 1, 2, 3, 4, 5, 6, 7, 8, 9, 10, 11, 12

## GH_SMD_13
designator J?
JST GH Series, pitch: 1.25mm, 1.0A/50v; MANF_P#: BM13B-GHS-TB; PARAM2: 50v; PARAM: 1.0A; MANF: JST; VALUE: GH_SMD_13
footprint GH_SMD_13 (JST GH Series, pitch: 1.25mm, 1.0A/50v, SMD)
pins: 1, 2, 3, 4, 5, 6, 7, 8, 9, 10, 11, 12, 13

## GH_SMD_14
designator J?
JST GH Series, pitch: 1.25mm, 1.0A/50v; MANF_P#: BM14B-GHS-TB; PARAM2: 50v; PARAM: 1.0A; MANF: JST; VALUE: GH_SMD_14
footprint GH_SMD_14 (JST GH Series, pitch: 1.25mm, 1.0A/50v, SMD)
pins: 1, 2, 3, 4, 5, 6, 7, 8, 9, 10, 11, 12, 13, 14

## GH_SMD_15
designator J?
JST GH Series, pitch: 1.25mm, 1.0A/50v; MANF_P#: BM15B-GHS-TB; PARAM2: 50v; PARAM: 1.0A; MANF: JST; VALUE: GH_SMD_15
footprint GH_SMD_15 (JST GH Series, pitch: 1.25mm, 1.0A/50v, SMD)
pins: 1, 2, 3, 4, 5, 6, 7, 8, 9, 10, 11, 12, 13, 14, 15

## GH_SMD_16
designator J?
JST GH Series, pitch: 1.25mm, 1.0A/50v; MANF_P#: BM16B-GHS-TB; PARAM2: 50v; PARAM: 1.0A; MANF: JST; VALUE: GH_SMD_16
footprint GH_SMD_16 (JST GH Series, pitch: 1.25mm, 1.0A/50v, SMD)
pins: 1, 2, 3, 4, 5, 6, 7, 8, 9, 10, 11, 12, 13, 14, 15, 16

## HDRWF_2
designator J?  (value not drawn)
Header, WF, Pitch: 2.54mm; VALUE: HDRWF_2
footprint WF_2 (DS1070  WF, Cvilux CI31 pitch 2.54mm)
signal-integrity model Connector
pins: 1, 2

## HDRWF_3
designator J?  (value not drawn)
Header, WF, Pitch: 2.54mm; VALUE: HDRWF_3
footprint WF_3 (DS1070  WF, Cvilux CI31 pitch 2.54mm)
signal-integrity model Connector
pins: 1, 2, 3

## HDRWF_4
designator J?  (value not drawn)
Header, WF, Pitch: 2.54mm; VALUE: HDRWF_4
footprint WF_4 (DS1070  WF, Cvilux CI31 pitch 2.54mm)
signal-integrity model Connector
pins: 1, 2, 3, 4

## HDRWF_4R
designator J?, comment HDRWF_4  (value not drawn)
Header, WF, Pitch: 2.54mm, RIGHT ANGLE; VALUE: HDRWF_4
footprint WF_4R (DS1070  WF, Cvilux CI31 pitch 2.54mm right angle)
signal-integrity model Connector
pins: 1, 2, 3, 4

## HDRWF_5
designator J?  (value not drawn)
Header, WF, Pitch: 2.54mm; VALUE: HDRWF_5
footprint WF_5 (DS1070  WF, Cvilux CI31 pitch 2.54mm)
signal-integrity model Connector
pins: 1, 2, 3, 4, 5

## HDRWF_6
designator J?  (value not drawn)
Header, WF, Pitch: 2.54mm; VALUE: HDRWF_6
footprint WF_6 (DS1070  WF, Cvilux CI31 pitch 2.54mm)
signal-integrity model Connector
pins: 1, 2, 3, 4, 5, 6

## HDRWF_7
designator J?  (value not drawn)
Header, WF, Pitch: 2.54mm; VALUE: HDRWF_7
footprint WF_7 (DS1070  WF, Cvilux CI31 pitch 2.54mm)
signal-integrity model Connector
pins: 1, 2, 3, 4, 5, 6, 7

## HDRWF_8
designator J?  (value not drawn)
Header, WF, Pitch: 2.54mm; VALUE: HDRWF_8
footprint WF_8 (DS1070  WF, Cvilux CI31 pitch 2.54mm)
signal-integrity model Connector
pins: 1, 2, 3, 4, 5, 6, 7, 8

## HDRWF_8R
designator J?, comment HDRWF_8  (value not drawn)
Header, WF, Pitch: 2.54mm, RIGHT ANGLE; VALUE: HDRWF_8
footprint WF_8R (DS1070  WF, Cvilux CI31 pitch 2.54mm right angle)
signal-integrity model Connector
pins: 1, 2, 3, 4, 5, 6, 7, 8

## HDRWF_9
designator J?  (value not drawn)
Header, WF, Pitch: 2.54mm; VALUE: HDRWF_9
footprint WF_9 (DS1070  WF, Cvilux CI31 pitch 2.54mm)
signal-integrity model Connector
pins: 1, 2, 3, 4, 5, 6, 7, 8, 9

## HDRWF_10
designator J?  (value not drawn)
Header, WF, Pitch: 2.54mm; VALUE: HDRWF_10
footprint WF_10 (DS1070  WF, Cvilux CI31 pitch 2.54mm)
signal-integrity model Connector
pins: 1, 2, 3, 4, 5, 6, 7, 8, 9, 10

## HDRWF_12R
designator JK?, comment HDRWF_12  (value not drawn)
Header, WF, Pitch: 2.54mm; VALUE: HDRWF_12
footprint WF_12R (Footprint not found)
signal-integrity model Connector
pins: 1, 2, 3, 4, 5, 6, 7, 8, 9, 10, 11, 12

## HDRWF_14R
designator JK?, comment HDRWF_14  (value not drawn)
Header, WF, Pitch: 2.54mm; VALUE: HDRWF_14
footprint WF_14R (DS1070  WF, Cvilux CI31 pitch 2.54mm right angle)
signal-integrity model Connector
pins: 1, 2, 3, 4, 5, 6, 7, 8, 9, 10, 11, 12, 13, 14

## PH_2
designator J?
JST PH Series, pitch: 2.0mm, 2.0A/100v; MANF_P#: B2B-PH; PARAM2: 100v; PARAM: 2.0A; MANF: JST; VALUE: PH_2
footprint PH_2 (Footprint not found)
pins: 1, 2

## PH_3
designator J?
JST PH Series, pitch: 2.0mm, 2.0A/100v; MANF_P#: B3B-PH; PARAM2: 100v; PARAM: 2.0A; MANF: JST; VALUE: PH_3
footprint PH_3 (JST PH Series, pitch: 2.0mm, 2.0A/100v)
pins: 1, 2, 3

## PH_4
designator J?
JST PH Series, pitch: 2.0mm, 2.0A/100v; MANF_P#: B4B-PH; PARAM2: 100v; PARAM: 2.0A; MANF: JST; VALUE: PH_4
footprint PH_4 (Footprint not found)
pins: 1, 2, 3, 4

## PH_5
designator J?
JST PH Series, pitch: 2.0mm, 2.0A/100v; MANF_P#: B5B-PH; PARAM2: 100v; PARAM: 2.0A; MANF: JST; VALUE: PH_5
footprint PH_5 (Footprint not found)
pins: 1, 2, 3, 4, 5

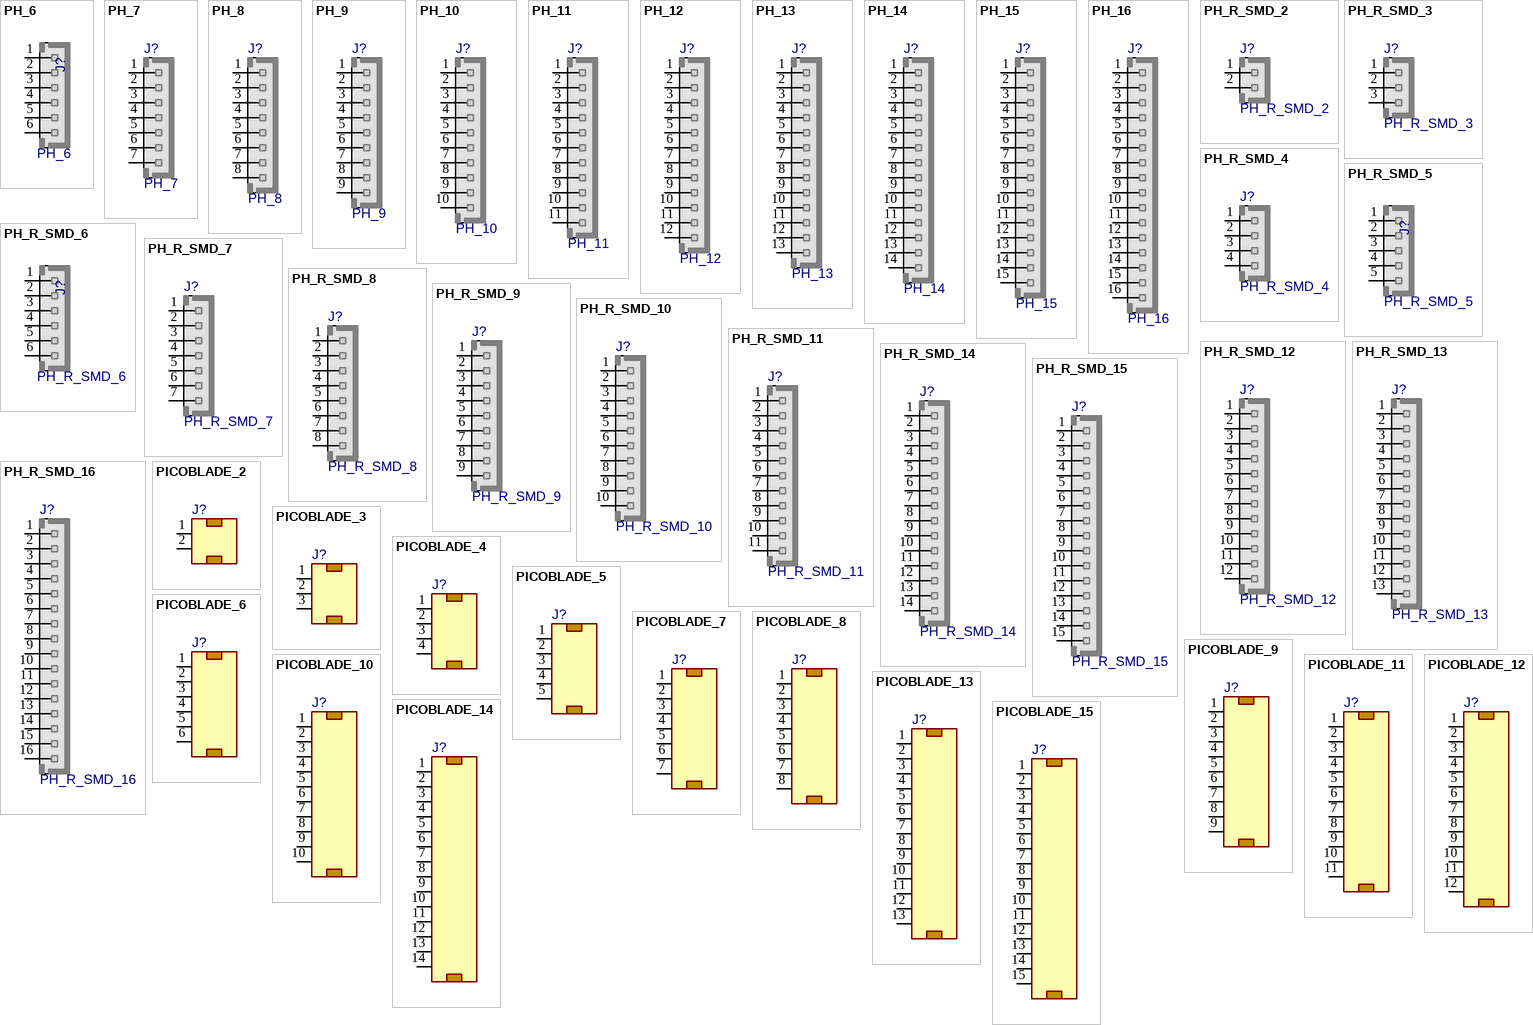
[diagram p3: symbols PH_6 to PICOBLADE_15]

## PH_6
designator J?
JST PH Series, pitch: 2.0mm, 2.0A/100v; MANF_P#: B6B-PH; PARAM2: 100v; PARAM: 2.0A; MANF: JST; VALUE: PH_6
footprint PH_6 (Footprint not found)
pins: 1, 2, 3, 4, 5, 6

## PH_7
designator J?
JST PH Series, pitch: 2.0mm, 2.0A/100v; MANF_P#: B7B-PH; PARAM2: 100v; PARAM: 2.0A; MANF: JST; VALUE: PH_7
footprint PH_7 (Footprint not found)
pins: 1, 2, 3, 4, 5, 6, 7

## PH_8
designator J?
JST PH Series, pitch: 2.0mm, 2.0A/100v; MANF_P#: B8B-PH; PARAM2: 100v; PARAM: 2.0A; MANF: JST; VALUE: PH_8
footprint PH_8 (Footprint not found)
pins: 1, 2, 3, 4, 5, 6, 7, 8

## PH_9
designator J?
JST PH Series, pitch: 2.0mm, 2.0A/100v; MANF_P#: B9B-PH; PARAM2: 100v; PARAM: 2.0A; MANF: JST; VALUE: PH_9
footprint PH_9 (Footprint not found)
pins: 1, 2, 3, 4, 5, 6, 7, 8, 9

## PH_10
designator J?
JST PH Series, pitch: 2.0mm, 2.0A/100v; MANF_P#: B10B-PH; PARAM2: 100v; PARAM: 2.0A; MANF: JST; VALUE: PH_10
footprint PH_10 (Footprint not found)
pins: 1, 2, 3, 4, 5, 6, 7, 8, 9, 10

## PH_11
designator J?
JST PH Series, pitch: 2.0mm, 2.0A/100v; MANF_P#: B11B-PH; PARAM2: 100v; PARAM: 2.0A; MANF: JST; VALUE: PH_11
footprint PH_11 (Footprint not found)
pins: 1, 2, 3, 4, 5, 6, 7, 8, 9, 10, 11

## PH_12
designator J?
JST PH Series, pitch: 2.0mm, 2.0A/100v; MANF_P#: B12B-PH; PARAM2: 100v; PARAM: 2.0A; MANF: JST; VALUE: PH_12
footprint PH_12 (Footprint not found)
pins: 1, 2, 3, 4, 5, 6, 7, 8, 9, 10, 11, 12

## PH_13
designator J?
JST PH Series, pitch: 2.0mm, 2.0A/100v; MANF_P#: B13B-PH; PARAM2: 100v; PARAM: 2.0A; MANF: JST; VALUE: PH_13
footprint PH_13 (Footprint not found)
pins: 1, 2, 3, 4, 5, 6, 7, 8, 9, 10, 11, 12, 13

## PH_14
designator J?
JST PH Series, pitch: 2.0mm, 2.0A/100v; MANF_P#: B14B-PH; PARAM2: 100v; PARAM: 2.0A; MANF: JST; VALUE: PH_14
footprint PH_14 (Footprint not found)
pins: 1, 2, 3, 4, 5, 6, 7, 8, 9, 10, 11, 12, 13, 14

## PH_15
designator J?
JST PH Series, pitch: 2.0mm, 2.0A/100v; MANF_P#: B15B-PH; PARAM2: 100v; PARAM: 2.0A; MANF: JST; VALUE: PH_15
footprint PH_15 (Footprint not found)
pins: 1, 2, 3, 4, 5, 6, 7, 8, 9, 10, 11, 12, 13, 14, 15

## PH_16
designator J?
JST PH Series, pitch: 2.0mm, 2.0A/100v; MANF_P#: B16B-PH; PARAM2: 100v; PARAM: 2.0A; MANF: JST; VALUE: PH_16
footprint PH_16 (Footprint not found)
pins: 1, 2, 3, 4, 5, 6, 7, 8, 9, 10, 11, 12, 13, 14, 15, 16

## PH_R_SMD_2
designator J?
JST PH Series, pitch: 2.0mm, 2.0A/100v; MANF_P#: S2B-PH-SM4-TB; PARAM2: 100v; PARAM: 2.0A; MANF: JST; VALUE: PH_R_SMD_2
footprint PH_R_SMD_2 (JST PH Series, pitch: 2.0mm, 2.0A/100v, Right Angle, SMD)
pins: 1, 2

## PH_R_SMD_3
designator J?
JST PH Series, pitch: 2.0mm, 2.0A/100v; MANF_P#: S3B-PH-SM4-TB; PARAM2: 100v; PARAM: 2.0A; MANF: JST; VALUE: PH_R_SMD_3
footprint PH_R_SMD_3 (JST PH Series, pitch: 2.0mm, 2.0A/100v, Right Angle, SMD)
pins: 1, 2, 3

## PH_R_SMD_4
designator J?
JST PH Series, pitch: 2.0mm, 2.0A/100v; MANF_P#: S4B-PH-SM4-TB; PARAM2: 100v; PARAM: 2.0A; MANF: JST; VALUE: PH_R_SMD_4
footprint PH_R_SMD_4 (JST PH Series, pitch: 2.0mm, 2.0A/100v, Right Angle, SMD)
pins: 1, 2, 3, 4

## PH_R_SMD_5
designator J?
JST PH Series, pitch: 2.0mm, 2.0A/100v; MANF_P#: S5B-PH-SM4-TB; PARAM2: 100v; PARAM: 2.0A; MANF: JST; VALUE: PH_R_SMD_5
footprint PH_R_SMD_5 (JST PH Series, pitch: 2.0mm, 2.0A/100v, Right Angle, SMD)
pins: 1, 2, 3, 4, 5

## PH_R_SMD_6
designator J?
JST PH Series, pitch: 2.0mm, 2.0A/100v; MANF_P#: S6B-PH-SM4-TB; PARAM2: 100v; PARAM: 2.0A; MANF: JST; VALUE: PH_R_SMD_6
footprint PH_R_SMD_6 (JST PH Series, pitch: 2.0mm, 2.0A/100v, Right Angle, SMD)
pins: 1, 2, 3, 4, 5, 6

## PH_R_SMD_7
designator J?
JST PH Series, pitch: 2.0mm, 2.0A/100v; MANF_P#: S7B-PH-SM4-TB; PARAM2: 100v; PARAM: 2.0A; MANF: JST; VALUE: PH_R_SMD_7
footprint PH_R_SMD_7 (JST PH Series, pitch: 2.0mm, 2.0A/100v, Right Angle, SMD)
pins: 1, 2, 3, 4, 5, 6, 7

## PH_R_SMD_8
designator J?
JST PH Series, pitch: 2.0mm, 2.0A/100v; MANF_P#: S8B-PH-SM4-TB; PARAM2: 100v; PARAM: 2.0A; MANF: JST; VALUE: PH_R_SMD_8
footprint PH_R_SMD_8 (JST PH Series, pitch: 2.0mm, 2.0A/100v, Right Angle, SMD)
pins: 1, 2, 3, 4, 5, 6, 7, 8

## PH_R_SMD_9
designator J?
JST PH Series, pitch: 2.0mm, 2.0A/100v; MANF_P#: S9B-PH-SM4-TB; PARAM2: 100v; PARAM: 2.0A; MANF: JST; VALUE: PH_R_SMD_9
footprint PH_R_SMD_9 (JST PH Series, pitch: 2.0mm, 2.0A/100v, Right Angle, SMD)
pins: 1, 2, 3, 4, 5, 6, 7, 8, 9

## PH_R_SMD_10
designator J?
JST PH Series, pitch: 2.0mm, 2.0A/100v; MANF_P#: S10B-PH-SM4-TB; PARAM2: 100v; PARAM: 2.0A; MANF: JST; VALUE: PH_R_SMD_10
footprint PH_R_SMD_10 (JST PH Series, pitch: 2.0mm, 2.0A/100v, Right Angle, SMD)
pins: 1, 2, 3, 4, 5, 6, 7, 8, 9, 10

## PH_R_SMD_11
designator J?
JST PH Series, pitch: 2.0mm, 2.0A/100v; MANF_P#: S11B-PH-SM4-TB; PARAM2: 100v; PARAM: 2.0A; MANF: JST; VALUE: PH_R_SMD_11
footprint PH_R_SMD_11 (JST PH Series, pitch: 2.0mm, 2.0A/100v, Right Angle, SMD)
pins: 1, 2, 3, 4, 5, 6, 7, 8, 9, 10, 11

## PH_R_SMD_12
designator J?
JST PH Series, pitch: 2.0mm, 2.0A/100v; MANF_P#: S12B-PH-SM4-TB; PARAM2: 100v; PARAM: 2.0A; MANF: JST; VALUE: PH_R_SMD_12
footprint PH_R_SMD_12 (JST PH Series, pitch: 2.0mm, 2.0A/100v, Right Angle, SMD)
pins: 1, 2, 3, 4, 5, 6, 7, 8, 9, 10, 11, 12

## PH_R_SMD_13
designator J?
JST PH Series, pitch: 2.0mm, 2.0A/100v; MANF_P#: S13B-PH-SM4-TB; PARAM2: 100v; PARAM: 2.0A; MANF: JST; VALUE: PH_R_SMD_13
footprint PH_R_SMD_13 (JST PH Series, pitch: 2.0mm, 2.0A/100v, Right Angle, SMD)
pins: 1, 2, 3, 4, 5, 6, 7, 8, 9, 10, 11, 12, 13

## PH_R_SMD_14
designator J?
JST PH Series, pitch: 2.0mm, 2.0A/100v; MANF_P#: S14B-PH-SM4-TB; PARAM2: 100v; PARAM: 2.0A; MANF: JST; VALUE: PH_R_SMD_14
footprint PH_R_SMD_14 (JST PH Series, pitch: 2.0mm, 2.0A/100v, Right Angle, SMD)
pins: 1, 2, 3, 4, 5, 6, 7, 8, 9, 10, 11, 12, 13, 14

## PH_R_SMD_15
designator J?
JST PH Series, pitch: 2.0mm, 2.0A/100v; MANF_P#: S15B-PH-SM4-TB; PARAM2: 100v; PARAM: 2.0A; MANF: JST; VALUE: PH_R_SMD_15
footprint PH_R_SMD_15 (JST PH Series, pitch: 2.0mm, 2.0A/100v, Right Angle, SMD)
pins: 1, 2, 3, 4, 5, 6, 7, 8, 9, 10, 11, 12, 13, 14, 15

## PH_R_SMD_16
designator J?
JST PH Series, pitch: 2.0mm, 2.0A/100v; MANF_P#: S16B-PH-SM4-TB; PARAM2: 100v; PARAM: 2.0A; MANF: JST; VALUE: PH_R_SMD_16
footprint PH_R_SMD_16 (JST PH Series, pitch: 2.0mm, 2.0A/100v, Right Angle, SMD)
pins: 1, 2, 3, 4, 5, 6, 7, 8, 9, 10, 11, 12, 13, 14, 15, 16

## PICOBLADE_2
designator J?  (value not drawn)
CONN, 1.25mm pitch, Molex PicoBlade 1.0A/250v; MANF_P#: 0532610271; PARAM2: 250v; PARAM: 1.0A; MANF: MOLEX; VALUE: PICOBLADE_2
footprint PICOBLADE_2 (CONN, 1.25mm pitch, Molex PicoBlade 1.0A/250v)
pins: 1, 2

## PICOBLADE_3
designator J?  (value not drawn)
CONN, 1.25mm pitch, Molex PicoBlade 1.0A/250v; MANF_P#: 0532610371; PARAM2: 250v; PARAM: 1.0A; MANF: MOLEX; VALUE: PICOBLADE_3
footprint PICOBLADE_3 (CONN, 1.25mm pitch, Molex PicoBlade 1.0A/250v)
pins: 1, 2, 3

## PICOBLADE_4
designator J?  (value not drawn)
CONN, 1.25mm pitch, Molex PicoBlade 1.0A/250v; MANF_P#: 0532610471; PARAM2: 250v; PARAM: 1.0A; MANF: MOLEX; VALUE: PICOBLADE_4
footprint PICOBLADE_4 (Footprint not found)
pins: 1, 2, 3, 4

## PICOBLADE_5
designator J?  (value not drawn)
CONN, 1.25mm pitch, Molex PicoBlade 1.0A/250v; MANF_P#: 0532610571; PARAM2: 250v; PARAM: 1.0A; MANF: MOLEX; VALUE: PICOBLADE_5
footprint PICOBLADE_5 (CONN, 1.25mm pitch, Molex PicoBlade 1.0A/250v)
pins: 1, 2, 3, 4, 5

## PICOBLADE_6
designator J?  (value not drawn)
CONN, 1.25mm pitch, Molex PicoBlade 1.0A/250v; MANF_P#: 0532610671; PARAM2: 250v; PARAM: 1.0A; MANF: MOLEX; VALUE: PICOBLADE_6
footprint PICOBLADE_6 (CONN, 1.25mm pitch, Molex PicoBlade 1.0A/250v)
pins: 1, 2, 3, 4, 5, 6

## PICOBLADE_7
designator J?  (value not drawn)
CONN, 1.25mm pitch, Molex PicoBlade 1.0A/250v; MANF_P#: 0532610771; PARAM2: 250v; PARAM: 1.0A; MANF: MOLEX; VALUE: PICOBLADE_7
footprint PICOBLADE_7 (CONN, 1.25mm pitch, Molex PicoBlade 1.0A/250v)
pins: 1, 2, 3, 4, 5, 6, 7

## PICOBLADE_8
designator J?  (value not drawn)
CONN, 1.25mm pitch, Molex PicoBlade 1.0A/250v; MANF_P#: 0532610871; PARAM2: 250v; PARAM: 1.0A; MANF: MOLEX; VALUE: PICOBLADE_8
footprint PICOBLADE_8 (CONN, 1.25mm pitch, Molex PicoBlade 1.0A/250v)
pins: 1, 2, 3, 4, 5, 6, 7, 8

## PICOBLADE_9
designator J?  (value not drawn)
CONN, 1.25mm pitch, Molex PicoBlade 1.0A/250v; MANF_P#: 0532610971; PARAM2: 250v; PARAM: 1.0A; MANF: MOLEX; VALUE: PICOBLADE_9
footprint PICOBLADE_9 (CONN, 1.25mm pitch, Molex PicoBlade 1.0A/250v)
pins: 1, 2, 3, 4, 5, 6, 7, 8, 9

## PICOBLADE_10
designator J?  (value not drawn)
CONN, 1.25mm pitch, Molex PicoBlade 1.0A/250v; MANF_P#: 0532611071; PARAM2: 250v; PARAM: 1.0A; MANF: MOLEX; VALUE: PICOBLADE_10
footprint PICOBLADE_10 (CONN, 1.25mm pitch, Molex PicoBlade 1.0A/250v)
pins: 1, 2, 3, 4, 5, 6, 7, 8, 9, 10

## PICOBLADE_11
designator J?  (value not drawn)
CONN, 1.25mm pitch, Molex PicoBlade 1.0A/250v; MANF_P#: 0532611171; PARAM2: 250v; PARAM: 1.0A; MANF: MOLEX; VALUE: PICOBLADE_11
footprint PICOBLADE_11 (CONN, 1.25mm pitch, Molex PicoBlade 1.0A/250v)
pins: 1, 2, 3, 4, 5, 6, 7, 8, 9, 10, 11

## PICOBLADE_12
designator J?  (value not drawn)
CONN, 1.25mm pitch, Molex PicoBlade 1.0A/250v; MANF_P#: 0532611271; PARAM2: 250v; PARAM: 1.0A; MANF: MOLEX; VALUE: PICOBLADE_12
footprint PICOBLADE_12 (CONN, 1.25mm pitch, Molex PicoBlade 1.0A/250v)
pins: 1, 2, 3, 4, 5, 6, 7, 8, 9, 10, 11, 12

## PICOBLADE_13
designator J?  (value not drawn)
CONN, 1.25mm pitch, Molex PicoBlade 1.0A/250v; MANF_P#: 0532611371; PARAM2: 250v; PARAM: 1.0A; MANF: MOLEX; VALUE: PICOBLADE_13
footprint PICOBLADE_13 (CONN, 1.25mm pitch, Molex PicoBlade 1.0A/250v)
pins: 1, 2, 3, 4, 5, 6, 7, 8, 9, 10, 11, 12, 13

## PICOBLADE_14
designator J?  (value not drawn)
CONN, 1.25mm pitch, Molex PicoBlade 1.0A/250v; MANF_P#: 0532611471; PARAM2: 250v; PARAM: 1.0A; MANF: MOLEX; VALUE: PICOBLADE_14
footprint PICOBLADE_14 (CONN, 1.25mm pitch, Molex PicoBlade 1.0A/250v)
pins: 1, 2, 3, 4, 5, 6, 7, 8, 9, 10, 11, 12, 13, 14

## PICOBLADE_15
designator J?  (value not drawn)
CONN, 1.25mm pitch, Molex PicoBlade 1.0A/250v; MANF_P#: 0532611571; PARAM2: 250v; PARAM: 1.0A; MANF: MOLEX; VALUE: PICOBLADE_15
footprint PICOBLADE_15 (CONN, 1.25mm pitch, Molex PicoBlade 1.0A/250v)
pins: 1, 2, 3, 4, 5, 6, 7, 8, 9, 10, 11, 12, 13, 14, 15

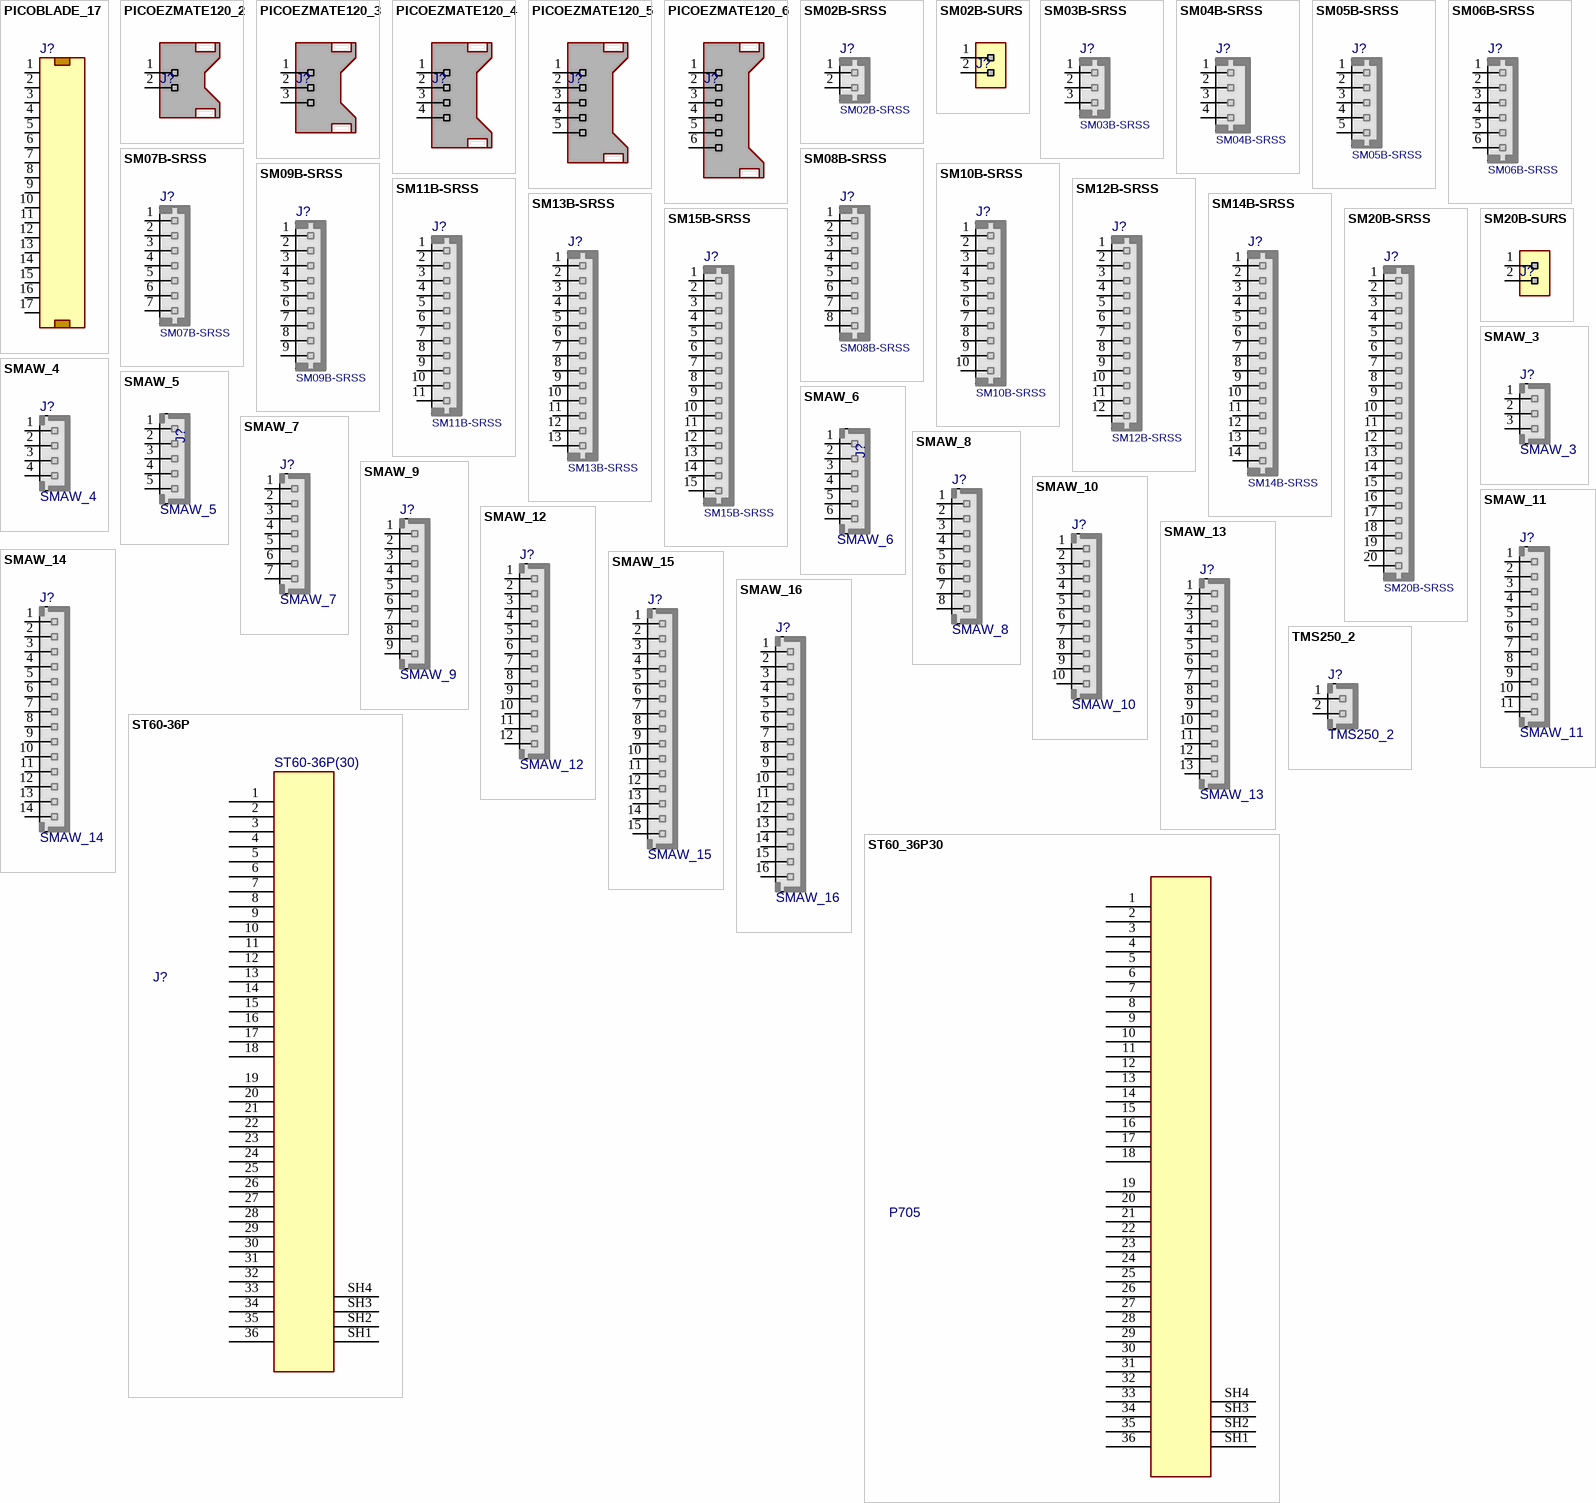
[diagram p4: symbols PICOBLADE_17 to TMS250_2]

## PICOBLADE_17
designator J?  (value not drawn)
CONN, 1.25mm pitch, Molex PicoBlade 1.0A/250v; MANF_P#: 0532611771; PARAM2: 250v; PARAM: 1.0A; MANF: MOLEX; VALUE: PICOBLADE_17
footprint PICOBLADE_17 (CONN, 1.25mm pitch, Molex PicoBlade 1.0A/250v)
pins: 1, 2, 3, 4, 5, 6, 7, 8, 9, 10, 11, 12, 13, 14, 15, 16, 17

## PICOEZMATE120_2
designator J?, comment Pico-EZmate_2  (value not drawn)
Header, PicoEZmate, Pitch: 1.2mm; MANF: MOLEX; MANF_P#: 78171-0002; DESC: Housing and Terminal 78172; PARAM2: 50VAC/DC; PARAM: 1.5A; VALUE: Pico-EZmate_2; PRICE: 0.2$
footprint PICOEZMATE120_2 (Pico-EZmate, Pitch: 1.2mm, Molex 78171)
pins: 1, 2

## PICOEZMATE120_3
designator J?, comment Pico-EZmate_3  (value not drawn)
Header, PicoEZmate, Pitch: 1.2mm; MANF: MOLEX; MANF_P#: 78171-0003; DESC: Housing and Terminal 78172; PARAM2: 50VAC/DC; PARAM: 1.5A; VALUE: Pico-EZmate_3; PRICE: 0.2$
footprint PICOEZMATE120_3 (Pico-EZmate, Pitch: 1.2mm, Molex 78171)
pins: 1, 2, 3

## PICOEZMATE120_4
designator J?, comment Pico-EZmate_4  (value not drawn)
Header, PicoEZmate, Pitch: 1.2mm; MANF: MOLEX; MANF_P#: 78171-0004; DESC: Housing and Terminal 78172; PARAM2: 50VAC/DC; PARAM: 1.5A; VALUE: Pico-EZmate_4; PRICE: 0.2$
footprint PICOEZMATE120_4 (Pico-EZmate, Pitch: 1.2mm, Molex 78171)
pins: 1, 2, 3, 4

## PICOEZMATE120_5
designator J?, comment Pico-EZmate_5  (value not drawn)
Header, PicoEZmate, Pitch: 1.2mm; MANF: MOLEX; MANF_P#: 78171-0005; DESC: Housing and Terminal 78172; PARAM2: 50VAC/DC; PARAM: 1.5A; VALUE: Pico-EZmate_5; PRICE: 0.2$
footprint PICOEZMATE120_5 (Pico-EZmate, Pitch: 1.2mm, Molex 78171)
pins: 1, 2, 3, 4, 5

## PICOEZMATE120_6
designator J?, comment Pico-EZmate_6  (value not drawn)
Header, PicoEZmate, Pitch: 1.2mm; MANF: MOLEX; MANF_P#: 78171-0006; DESC: Housing and Terminal 78172; PARAM2: 50VAC/DC; PARAM: 1.5A; VALUE: Pico-EZmate_6; PRICE: 0.2$
footprint PICOEZMATE120_6 (Pico-EZmate, Pitch: 1.2mm, Molex 78171)
pins: 1, 2, 3, 4, 5, 6

## SM02B-SRSS
designator J?
JST SH Series, pitch: 1.0mm, 1.0A/50v. Side Entry; MANF_P#: SM02B-SRSS-TB; PARAM2: 50v; PARAM: 1.0A; MANF: JST; VALUE: SM02B-SRSS
footprint SM02B_SRSS (SH, Pitch: 1mm, side Entry, SMxxB-SRSS-TB)
pins: 1, 2

## SM02B-SURS
designator J?, comment SM02B  (value not drawn)
Header, eSUR, Pitch: 0.8mm; MANF: JST; MANF_P#: SM02B-SURS-TF; PARAM2: 30VDC; PARAM: 0.5A; VALUE: SM02B; PRICE: 0.7$
footprint SM02B_SURS (Footprint not found)
pins: 1, 2

## SM03B-SRSS
designator J?
JST SH Series, pitch: 1.0mm, 1.0A/50v. Side Entry; MANF_P#: SM03B-SRSS-TB; PARAM2: 50v; PARAM: 1.0A; MANF: JST; VALUE: SM03B-SRSS
footprint SM03B_SRSS (SH, Pitch: 1mm, side Entry, SMxxB-SRSS-TB)
pins: 1, 2, 3

## SM04B-SRSS
designator J?
JST SH Series, pitch: 1.0mm, 1.0A/50v. Side Entry; MANF_P#: SM04B-SRSS-TB; PARAM2: 50v; PARAM: 1.0A; MANF: JST; VALUE: SM04B-SRSS
footprint SM04B_SRSS (SH, Pitch: 1mm, side Entry, SMxxB-SRSS-TB)
pins: 1, 2, 3, 4

## SM05B-SRSS
designator J?
JST SH Series, pitch: 1.0mm, 1.0A/50v. Side Entry; MANF_P#: SM05B-SRSS-TB; PARAM2: 50v; PARAM: 1.0A; MANF: JST; VALUE: SM05B-SRSS
footprint SM05B_SRSS (SH, Pitch: 1mm, side Entry, SMxxB-SRSS-TB)
pins: 1, 2, 3, 4, 5

## SM06B-SRSS
designator J?
JST SH Series, pitch: 1.0mm, 1.0A/50v. Side Entry; MANF_P#: SM06B-SRSS-TB; PARAM2: 50v; PARAM: 1.0A; MANF: JST; VALUE: SM06B-SRSS
footprint SM06B_SRSS (SH, Pitch: 1mm, side Entry, SMxxB-SRSS-TB)
pins: 1, 2, 3, 4, 5, 6

## SM07B-SRSS
designator J?
JST SH Series, pitch: 1.0mm, 1.0A/50v. Side Entry; MANF_P#: SM07B-SRSS-TB; PARAM2: 50v; PARAM: 1.0A; MANF: JST; VALUE: SM07B-SRSS
footprint SM07B_SRSS (SH, Pitch: 1mm, side Entry, SMxxB-SRSS-TB)
pins: 1, 2, 3, 4, 5, 6, 7

## SM08B-SRSS
designator J?
JST SH Series, pitch: 1.0mm, 1.0A/50v. Side Entry; MANF_P#: SM08B-SRSS-TB; PARAM2: 50v; PARAM: 1.0A; MANF: JST; VALUE: SM08B-SRSS
footprint SM08B_SRSS (SH, Pitch: 1mm, side Entry, SMxxB-SRSS-TB)
pins: 1, 2, 3, 4, 5, 6, 7, 8

## SM09B-SRSS
designator J?
JST SH Series, pitch: 1.0mm, 1.0A/50v. Side Entry; MANF_P#: SM09B-SRSS-TB; PARAM2: 50v; PARAM: 1.0A; MANF: JST; VALUE: SM09B-SRSS
footprint SM09B_SRSS (SH, Pitch: 1mm, side Entry, SMxxB-SRSS-TB)
pins: 1, 2, 3, 4, 5, 6, 7, 8, 9

## SM10B-SRSS
designator J?
JST SH Series, pitch: 1.0mm, 1.0A/50v. Side Entry; MANF_P#: SM10B-SRSS-TB; PARAM2: 50v; PARAM: 1.0A; MANF: JST; VALUE: SM10B-SRSS
footprint SM10B_SRSS (SH, Pitch: 1mm, side Entry, SMxxB-SRSS-TB)
pins: 1, 2, 3, 4, 5, 6, 7, 8, 9, 10

## SM11B-SRSS
designator J?
JST SH Series, pitch: 1.0mm, 1.0A/50v. Side Entry; MANF_P#: SM11B-SRSS-TB; PARAM2: 50v; PARAM: 1.0A; MANF: JST; VALUE: SM11B-SRSS
footprint SM11B_SRSS (SH, Pitch: 1mm, side Entry, SMxxB-SRSS-TB)
pins: 1, 2, 3, 4, 5, 6, 7, 8, 9, 10, 11

## SM12B-SRSS
designator J?
JST SH Series, pitch: 1.0mm, 1.0A/50v. Side Entry; MANF_P#: SM12B-SRSS-TB; PARAM2: 50v; PARAM: 1.0A; MANF: JST; VALUE: SM12B-SRSS
footprint SM12B_SRSS (SH, Pitch: 1mm, side Entry, SMxxB-SRSS-TB)
pins: 1, 2, 3, 4, 5, 6, 7, 8, 9, 10, 11, 12

## SM13B-SRSS
designator J?
JST SH Series, pitch: 1.0mm, 1.0A/50v. Side Entry; MANF_P#: SM13B-SRSS-TB; PARAM2: 50v; PARAM: 1.0A; MANF: JST; VALUE: SM13B-SRSS
footprint SM13B_SRSS (SH, Pitch: 1mm, side Entry, SMxxB-SRSS-TB)
pins: 1, 2, 3, 4, 5, 6, 7, 8, 9, 10, 11, 12, 13

## SM14B-SRSS
designator J?
JST SH Series, pitch: 1.0mm, 1.0A/50v. Side Entry; MANF_P#: SM14B-SRSS-TB; PARAM2: 50v; PARAM: 1.0A; MANF: JST; VALUE: SM14B-SRSS
footprint SM14B_SRSS (SH, Pitch: 1mm, side Entry, SMxxB-SRSS-TB)
pins: 1, 2, 3, 4, 5, 6, 7, 8, 9, 10, 11, 12, 13, 14

## SM15B-SRSS
designator J?
JST SH Series, pitch: 1.0mm, 1.0A/50v. Side Entry; MANF_P#: SM15B-SRSS-TB; PARAM2: 50v; PARAM: 1.0A; MANF: JST; VALUE: SM15B-SRSS
footprint SM15B_SRSS (SH, Pitch: 1mm, side Entry, SMxxB-SRSS-TB)
pins: 1, 2, 3, 4, 5, 6, 7, 8, 9, 10, 11, 12, 13, 14, 15

## SM20B-SRSS
designator J?
JST SH Series, pitch: 1.0mm, 1.0A/50v. Side Entry; MANF_P#: SM20B-SRSS-TB; PARAM2: 50v; PARAM: 1.0A; MANF: JST; VALUE: SM20B-SRSS
footprint SM20B_SRSS (SH, Pitch: 1mm, side Entry, SMxxB-SRSS-TB)
pins: 1, 2, 3, 4, 5, 6, 7, 8, 9, 10, 11, 12, 13, 14, 15, 16, 17, 18, 19, 20

## SM20B-SURS
designator J?, comment SM20B  (value not drawn)
Header, eSUR, Pitch: 0.8mm; MANF: JST; MANF_P#: SM20B-SURS-TF; PARAM2: 30VDC; PARAM: 0.5A; VALUE: SM20B; PRICE: 0.7$
footprint SM20B_SURS (eSUR, Pitch: 0.8mm, side Entry)
pins: 1, 2

## SMAW_3
designator J?
SMAW, pitch: 2.5mm, Righ Angle; MANF: China; VALUE: SMAW_3
footprint SMAW_3 (SMAW, pitch: 2.5mm, Righ Angle)
pins: 1, 2, 3

## SMAW_4
designator J?
SMAW, pitch: 2.5mm, Righ Angle; MANF: China; VALUE: SMAW_4
footprint SMAW_4 (SMAW, pitch: 2.5mm, Righ Angle)
pins: 1, 2, 3, 4

## SMAW_5
designator J?
SMAW, pitch: 2.5mm, Righ Angle; MANF: China; VALUE: SMAW_5
footprint SMAW_5 (SMAW, pitch: 2.5mm, Righ Angle)
pins: 1, 2, 3, 4, 5

## SMAW_6
designator J?
SMAW, pitch: 2.5mm, Righ Angle; MANF: China; VALUE: SMAW_6
footprint SMAW_6 (SMAW, pitch: 2.5mm, Righ Angle)
pins: 1, 2, 3, 4, 5, 6

## SMAW_7
designator J?
SMAW, pitch: 2.5mm, Righ Angle; MANF: China; VALUE: SMAW_7
footprint SMAW_7 (SMAW, pitch: 2.5mm, Righ Angle)
pins: 1, 2, 3, 4, 5, 6, 7

## SMAW_8
designator J?
SMAW, pitch: 2.5mm, Righ Angle; MANF: China; VALUE: SMAW_8
footprint SMAW_8 (SMAW, pitch: 2.5mm, Righ Angle)
pins: 1, 2, 3, 4, 5, 6, 7, 8

## SMAW_9
designator J?
SMAW, pitch: 2.5mm, Righ Angle; MANF: China; VALUE: SMAW_9
footprint SMAW_9 (SMAW, pitch: 2.5mm, Righ Angle)
pins: 1, 2, 3, 4, 5, 6, 7, 8, 9

## SMAW_10
designator J?
SMAW, pitch: 2.5mm, Righ Angle; MANF: China; VALUE: SMAW_10
footprint SMAW_10 (SMAW, pitch: 2.5mm, Righ Angle)
pins: 1, 2, 3, 4, 5, 6, 7, 8, 9, 10

## SMAW_11
designator J?
SMAW, pitch: 2.5mm, Righ Angle; MANF: China; VALUE: SMAW_11
footprint SMAW_11 (SMAW, pitch: 2.5mm, Righ Angle)
pins: 1, 2, 3, 4, 5, 6, 7, 8, 9, 10, 11

## SMAW_12
designator J?
SMAW, pitch: 2.5mm, Righ Angle; MANF: China; VALUE: SMAW_12
footprint SMAW_12 (SMAW, pitch: 2.5mm, Righ Angle)
pins: 1, 2, 3, 4, 5, 6, 7, 8, 9, 10, 11, 12

## SMAW_13
designator J?
SMAW, pitch: 2.5mm, Righ Angle; MANF: China; VALUE: SMAW_13
footprint SMAW_13 (SMAW, pitch: 2.5mm, Righ Angle)
pins: 1, 2, 3, 4, 5, 6, 7, 8, 9, 10, 11, 12, 13

## SMAW_14
designator J?
SMAW, pitch: 2.5mm, Righ Angle; MANF: China; VALUE: SMAW_14
footprint SMAW_14 (SMAW, pitch: 2.5mm, Righ Angle)
pins: 1, 2, 3, 4, 5, 6, 7, 8, 9, 10, 11, 12, 13, 14

## SMAW_15
designator J?
SMAW, pitch: 2.5mm, Righ Angle; MANF: China; VALUE: SMAW_15
footprint SMAW_15 (SMAW, pitch: 2.5mm, Righ Angle)
pins: 1, 2, 3, 4, 5, 6, 7, 8, 9, 10, 11, 12, 13, 14, 15

## SMAW_16
designator J?
SMAW, pitch: 2.5mm, Righ Angle; MANF: China; VALUE: SMAW_16
footprint SMAW_16 (SMAW, pitch: 2.5mm, Righ Angle)
pins: 1, 2, 3, 4, 5, 6, 7, 8, 9, 10, 11, 12, 13, 14, 15, 16

## ST60-36P
designator J?, comment ST60-36P(30)
CONN, SATA, 22POS, Vertical, THD; MANF: Hirose; MANF_P#: ST60-36P(30); PRICE: -; VALUE: ST60-36P(30)
footprint ST60_36P30 (ST60-36P(30) HIROSE, 0.5mm pitch)
footprint ST60_36P30M (ST60-36P(30) HIROSE, 0.5mm pitch modified)
pins: 1, 2, 3, 4, 5, 6, 7, 8, 9, 10, 11, 12, 13, 14, 15, 16, 17, 18, 19, 20, 21, 22, 23, 24, 25, 26, 27, 28, 29, 30, 31, 32, 33, 34, 35, 36, SH1, SH2, SH3, SH4

## ST60_36P30
designator P705  (value not drawn)
Interface Connectors for Portable Terminal Devices; VALUE: ST60_36P30
footprint ST60_36P30M (ST60-36P(30) HIROSE, 0.5mm pitch)
pins: 1, 2, 3, 4, 5, 6, 7, 8, 9, 10, 11, 12, 13, 14, 15, 16, 17, 18, 19, 20, 21, 22, 23, 24, 25, 26, 27, 28, 29, 30, 31, 32, 33, 34, 35, 36, SH1, SH2, SH3, SH4

## TMS250_2
designator J?
Molex Mini-SPOX, pitch 2.50mm, 4.0A; MANF_P#: 22035025; MANF: Molex; PARAM: 4.0A; VALUE: TMS250_2
footprint TMS250_2 (Molex Mini-SPOX, pitch 2.50mm, 4.0A)
pins: 1, 2

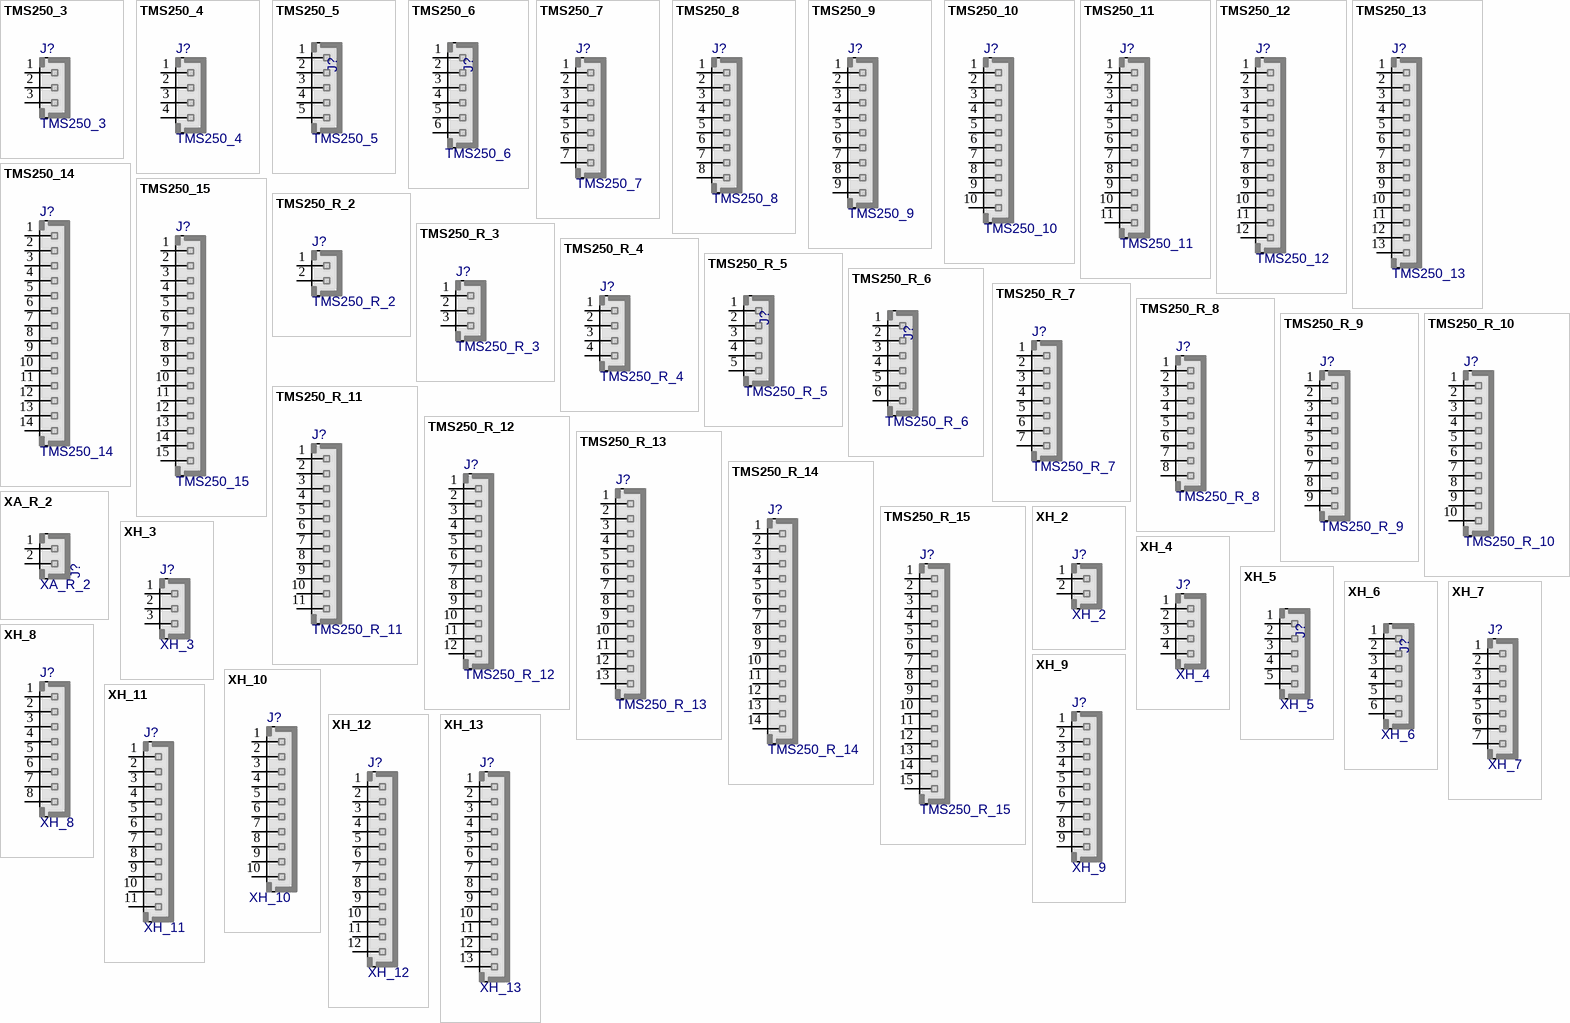
[diagram p5: symbols TMS250_3 to XH_13]

## TMS250_3
designator J?
Molex Mini-SPOX, pitch 2.50mm, 4.0A; MANF_P#: 22035035; MANF: Molex; PARAM: 4.0A; VALUE: TMS250_3
footprint TMS250_3 (Molex Mini-SPOX, pitch 2.50mm, 4.0A)
pins: 1, 2, 3